# Altium integrated library con-amp.IntLib: 238 symbols (part 1 of 3)
Pins are listed as number, name and electrical type; pins without a type are passive.

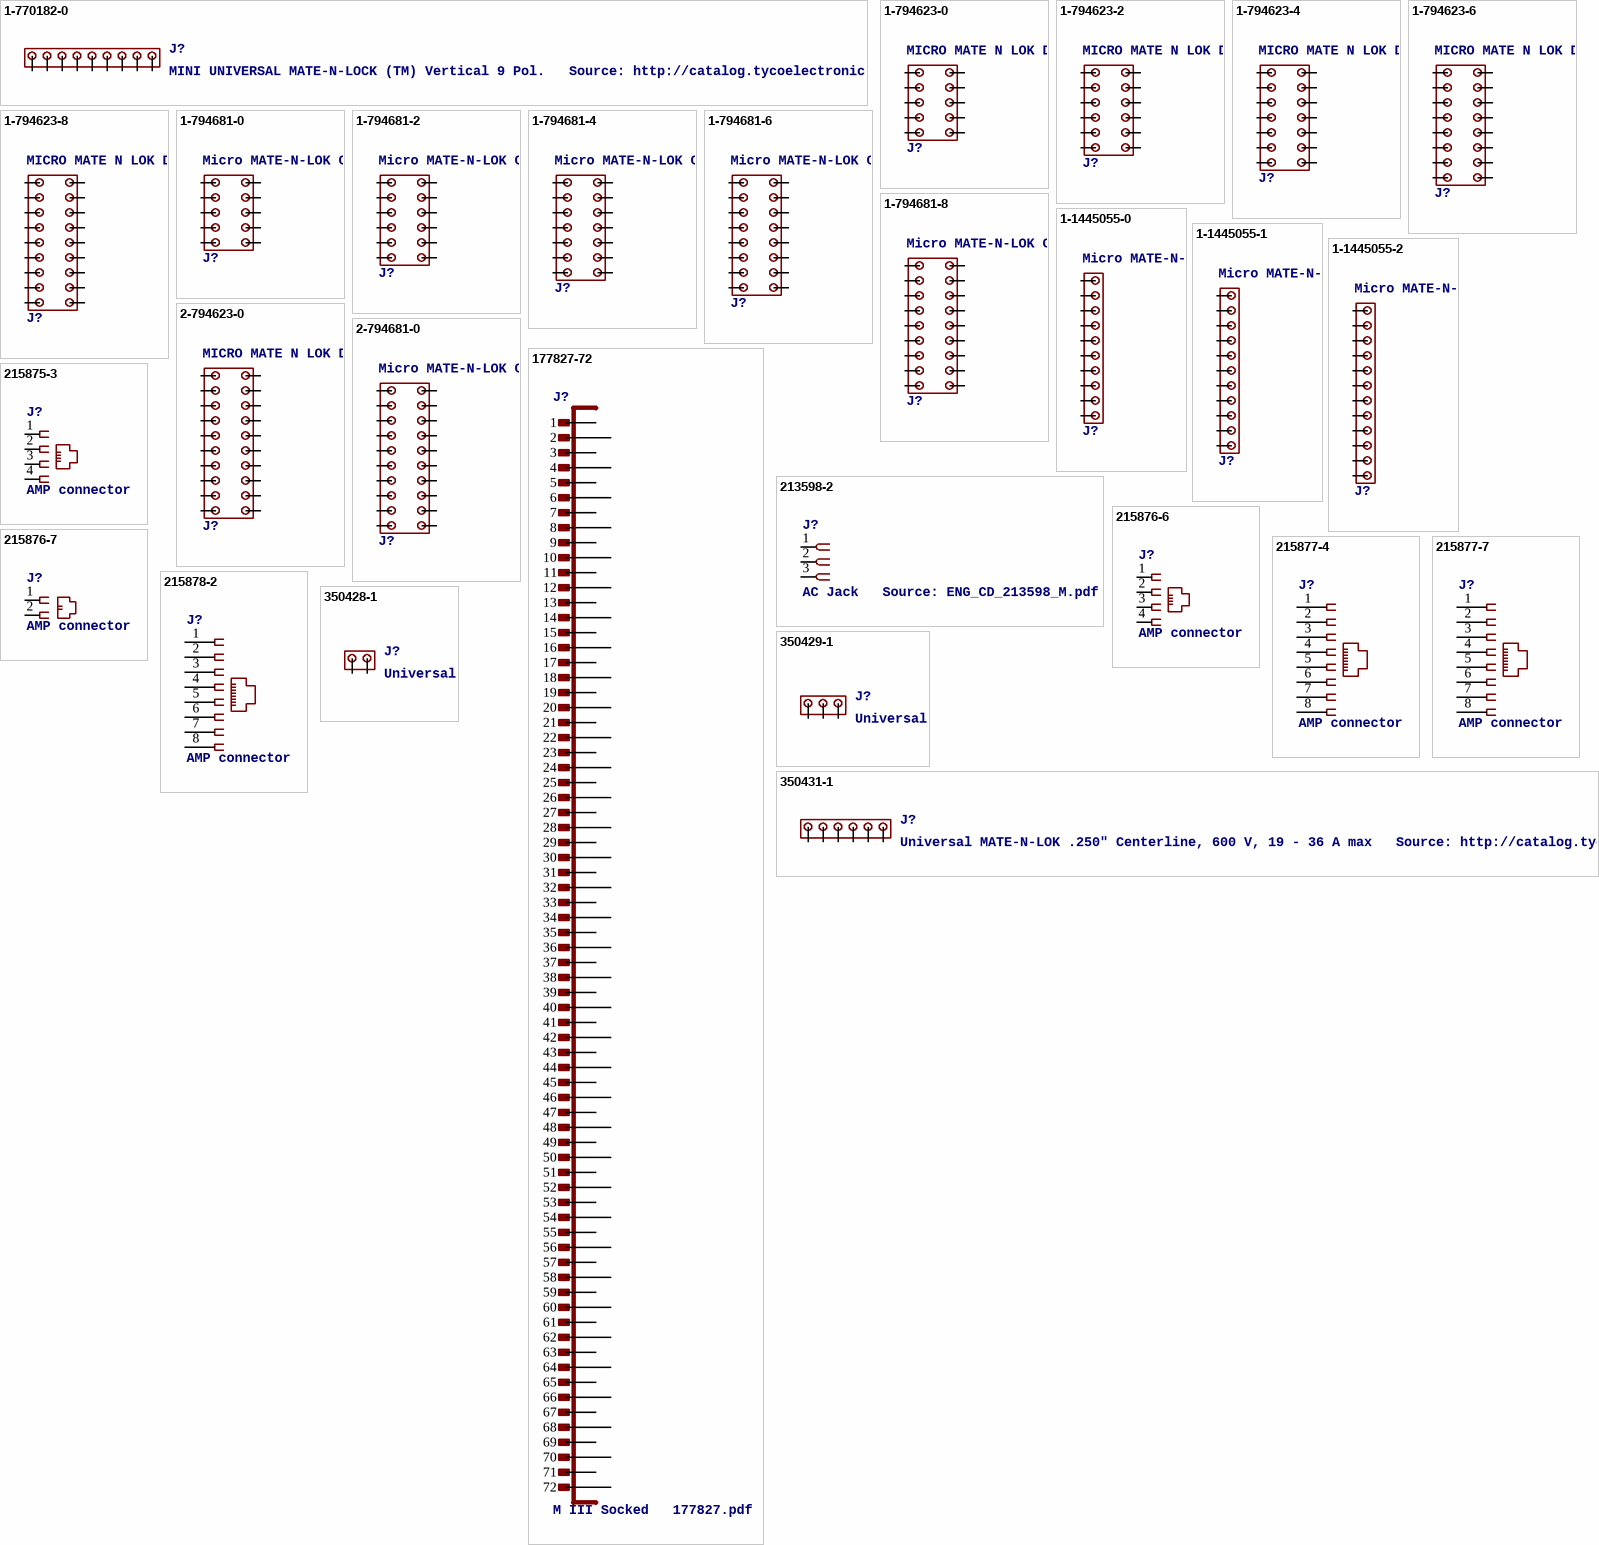
[diagram p0: symbols 1-770182-0 to 350431-1]

## 1-770182-0
designator J?, comment MINI UNIVERSAL MATE-N-LOCK (TM) Vertical 9 Pol.   Source: http://catalog.tycoelectronics.com .. ENG_CD_770182_L.pdf
footprint 1-770182-0
pins: 1, 2, 3, 4, 5, 6, 7, 8, 9

## 1-794623-0
designator J?, comment MICRO MATE N LOK Dual Row, grid 1.5 mm   Source: http://catalog.tycoelectronics.com .. ENG_CD_794623_F.pdf
footprint 1-794623-0
pins: 1, 2, 3, 4, 5, 6, 7, 8, 9, 10

## 1-794623-2
designator J?, comment MICRO MATE N LOK Dual Row, grid 1.5 mm   Source: http://catalog.tycoelectronics.com .. ENG_CD_794623_F.pdf
footprint 1-794623-2
pins: 1, 2, 3, 4, 5, 6, 7, 8, 9, 10, 11, 12

## 1-794623-4
designator J?, comment MICRO MATE N LOK Dual Row, grid 1.5 mm   Source: http://catalog.tycoelectronics.com .. ENG_CD_794623_F.pdf
footprint 1-794623-4
pins: 1, 2, 3, 4, 5, 6, 7, 8, 9, 10, 11, 12, 13, 14

## 1-794623-6
designator J?, comment MICRO MATE N LOK Dual Row, grid 1.5 mm   Source: http://catalog.tycoelectronics.com .. ENG_CD_794623_F.pdf
footprint 1-794623-6
pins: 1, 2, 3, 4, 5, 6, 7, 8, 9, 10, 11, 12, 13, 14, 15, 16

## 1-794623-8
designator J?, comment MICRO MATE N LOK Dual Row, grid 1.5 mm   Source: http://catalog.tycoelectronics.com .. ENG_CD_794623_F.pdf
footprint 1-794623-8
pins: 1, 2, 3, 4, 5, 6, 7, 8, 9, 10, 11, 12, 13, 14, 15, 16, 17, 18

## 1-794681-0
designator J?, comment Micro MATE-N-LOK Connectors grid 1.5mm   Dual Row Through Hole Vertical Metal Through Hole Holddowns Source: ENG_CD_794681_E.pdf
footprint 1-794681-0
pins: 1, 2, 3, 4, 5, 6, 7, 8, 9, 10

## 1-794681-2
designator J?, comment Micro MATE-N-LOK Connectors grid 1.5mm   Dual Row Through Hole Vertical Metal Through Hole Holddowns Source: ENG_CD_794681_E.pdf
footprint 1-794681-2
pins: 1, 2, 3, 4, 5, 6, 7, 8, 9, 10, 11, 12

## 1-794681-4
designator J?, comment Micro MATE-N-LOK Connectors grid 1.5mm   Dual Row Through Hole Vertical Metal Through Hole Holddowns Source: ENG_CD_794681_E.pdf
footprint 1-794681-4
pins: 1, 2, 3, 4, 5, 6, 7, 8, 9, 10, 11, 12, 13, 14

## 1-794681-6
designator J?, comment Micro MATE-N-LOK Connectors grid 1.5mm   Dual Row Through Hole Vertical Metal Through Hole Holddowns Source: ENG_CD_794681_E.pdf
footprint 1-794681-6
pins: 1, 2, 3, 4, 5, 6, 7, 8, 9, 10, 11, 12, 13, 14, 15, 16

## 1-794681-8
designator J?, comment Micro MATE-N-LOK Connectors grid 1.5mm   Dual Row Through Hole Vertical Metal Through Hole Holddowns Source: ENG_CD_794681_E.pdf
footprint 1-794681-8
pins: 1, 2, 3, 4, 5, 6, 7, 8, 9, 10, 11, 12, 13, 14, 15, 16, 17, 18

## 1-1445055-0
designator J?, comment Micro MATE-N-LOK Connectors grid 1.5 mm   Source: ENG_CD_1445055_A.pdf
footprint 1445055-10
pins: 1, 2, 3, 4, 5, 6, 7, 8, 9, 10

## 1-1445055-1
designator J?, comment Micro MATE-N-LOK Connectors grid 1.5 mm   Source: ENG_CD_1445055_A.pdf
footprint 1-1445055-1
pins: 1, 2, 3, 4, 5, 6, 7, 8, 9, 10, 11

## 1-1445055-2
designator J?, comment Micro MATE-N-LOK Connectors grid 1.5 mm   Source: ENG_CD_1445055_A.pdf
footprint 1-1445055-2
pins: 1, 2, 3, 4, 5, 6, 7, 8, 9, 10, 11, 12

## 2-794623-0
designator J?, comment MICRO MATE N LOK Dual Row, grid 1.5 mm   Source: http://catalog.tycoelectronics.com .. ENG_CD_794623_F.pdf
footprint 2-794623-0
pins: 1, 2, 3, 4, 5, 6, 7, 8, 9, 10, 11, 12, 13, 14, 15, 16, 17, 18, 19, 20

## 2-794681-0
designator J?, comment Micro MATE-N-LOK Connectors grid 1.5mm   Dual Row Through Hole Vertical Metal Through Hole Holddowns Source: ENG_CD_794681_E.pdf
footprint 2-794681-0
pins: 1, 2, 3, 4, 5, 6, 7, 8, 9, 10, 11, 12, 13, 14, 15, 16, 17, 18, 19, 20

## 177827-72
designator J?, comment M III Socked   177827.pdf
footprint 177827-72
pins: 1, 2, 3, 4, 5, 6, 7, 8, 9, 10, 11, 12, 13, 14, 15, 16, 17, 18, 19, 20, 21, 22, 23, 24, 25, 26, 27, 28, 29, 30, 31, 32, 33, 34, 35, 36, 37, 38, 39, 40, 41, 42, 43, 44, 45, 46, 47, 48, 49, 50, 51, 52, 53, 54, 55, 56, 57, 58, 59, 60, 61, 62, 63, 64, 65, 66, 67, 68, 69, 70, 71, 72

## 213598-2
designator J?, comment AC Jack   Source: ENG_CD_213598_M.pdf
footprint 213598-2
pins: 1, 2, 3

## 215875-3
designator J?, comment AMP connector
footprint 215875-3
pins: 1, 2, 3, 4

## 215876-6
designator J?, comment AMP connector
footprint 215876-6
pins: 1, 2, 3, 4

## 215876-7
designator J?, comment AMP connector
footprint 215876-7
pins: 1, 2

## 215877-4
designator J?, comment AMP connector
footprint 215877-4
pins: 1, 2, 3, 4, 5, 6, 7, 8

## 215877-7
designator J?, comment AMP connector
footprint 215877-7
pins: 1, 2, 3, 4, 5, 6, 7, 8

## 215878-2
designator J?, comment AMP connector
footprint 215878-2
pins: 1, 2, 3, 4, 5, 6, 7, 8

## 350428-1
designator J?, comment Universal MATE-N-LOK .250" Centerline, 600 V, 19 - 36 A max   Source: http://catalog.tycoelectronics.com/ .. ENG_CD_350428_Y.pdf
footprint 350428-1
pins: 1, 2

## 350429-1
designator J?, comment Universal MATE-N-LOK .250" Centerline, 600 V, 19 - 36 A max   Source: http://catalog.tycoelectronics.com/ .. ENG_CD_350429_Y.pdf
footprint 350429-1
pins: 1, 2, 3

## 350431-1
designator J?, comment Universal MATE-N-LOK .250" Centerline, 600 V, 19 - 36 A max   Source: http://catalog.tycoelectronics.com/ .. ENG_CD_350431_Y.pdf
footprint 350431-1
pins: 1, 2, 3, 4, 5, 6

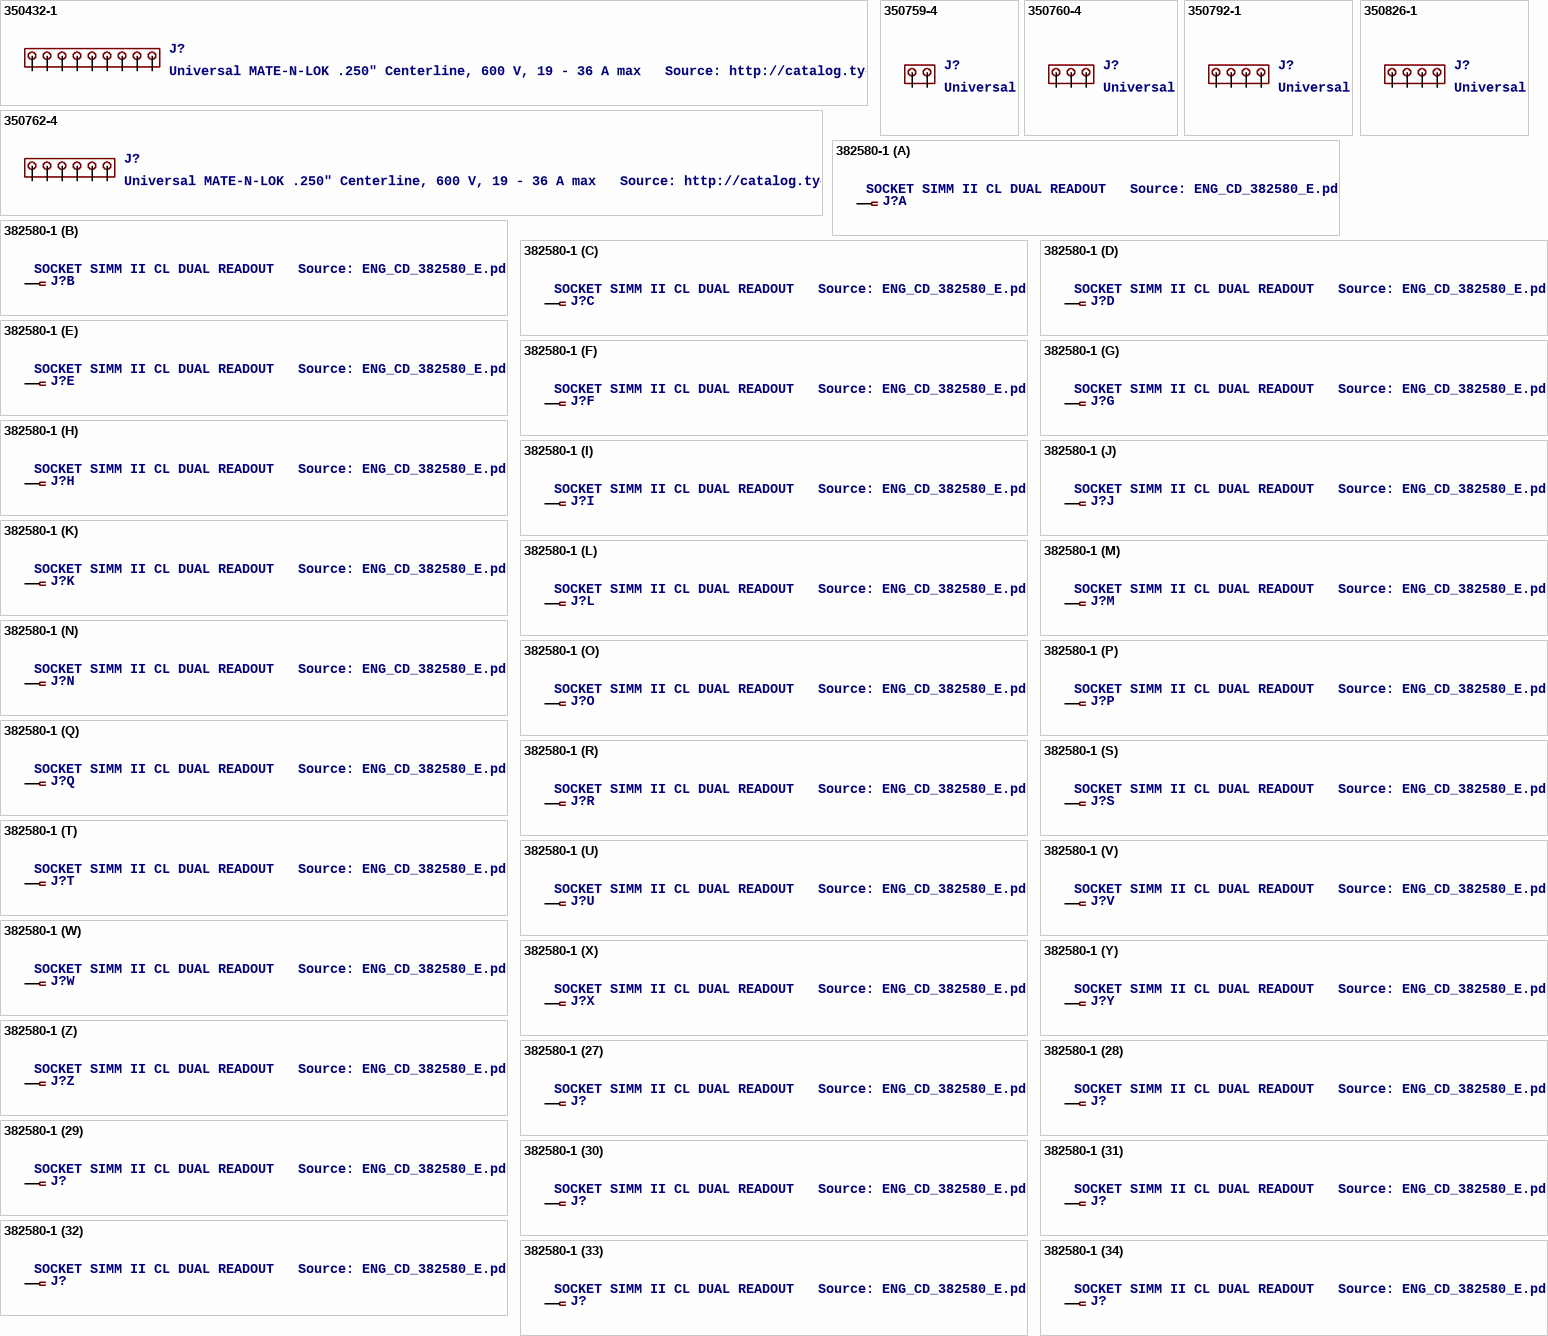
[diagram p1: symbols 350432-1 to 382580-1]

## 350432-1
designator J?, comment Universal MATE-N-LOK .250" Centerline, 600 V, 19 - 36 A max   Source: http://catalog.tycoelectronics.com/ .. ENG_CD_350432_W.pdf
footprint 350432-1
pins: 1, 2, 3, 4, 5, 6, 7, 8, 9

## 350759-4
designator J?, comment Universal MATE-N-LOK .250" Centerline, 600 V, 19 - 36 A max   Source: http://catalog.tycoelectronics.com/ .. ENG_CD_350759_R.pdf
footprint 350759-4
pins: 1, 2

## 350760-4
designator J?, comment Universal MATE-N-LOK .250" Centerline, 600 V, 19 - 36 A max   Source: http://catalog.tycoelectronics.com/ .. ENG_CD_350760_T.pdf
footprint 350760-4
pins: 1, 2, 3

## 350762-4
designator J?, comment Universal MATE-N-LOK .250" Centerline, 600 V, 19 - 36 A max   Source: http://catalog.tycoelectronics.com/ .. ENG_CD_350762_N.pdf
footprint 350762-4
pins: 1, 2, 3, 4, 5, 6

## 350792-1
designator J?, comment Universal MATE-N-LOK .250" Centerline, 600 V, 19 - 36 A max   Source: http://catalog.tycoelectronics.com/ .. ENG_CD_350792_R.pdf
footprint 350792-1
pins: 1, 2, 3, 4

## 350826-1
designator J?, comment Universal MATE-N-LOK .250" Centerline, 600 V, 19 - 36 A max   Source: http://catalog.tycoelectronics.com/ .. ENG_CD_350826_P.pdf
footprint 350826-1
pins: 1, 2, 3, 4

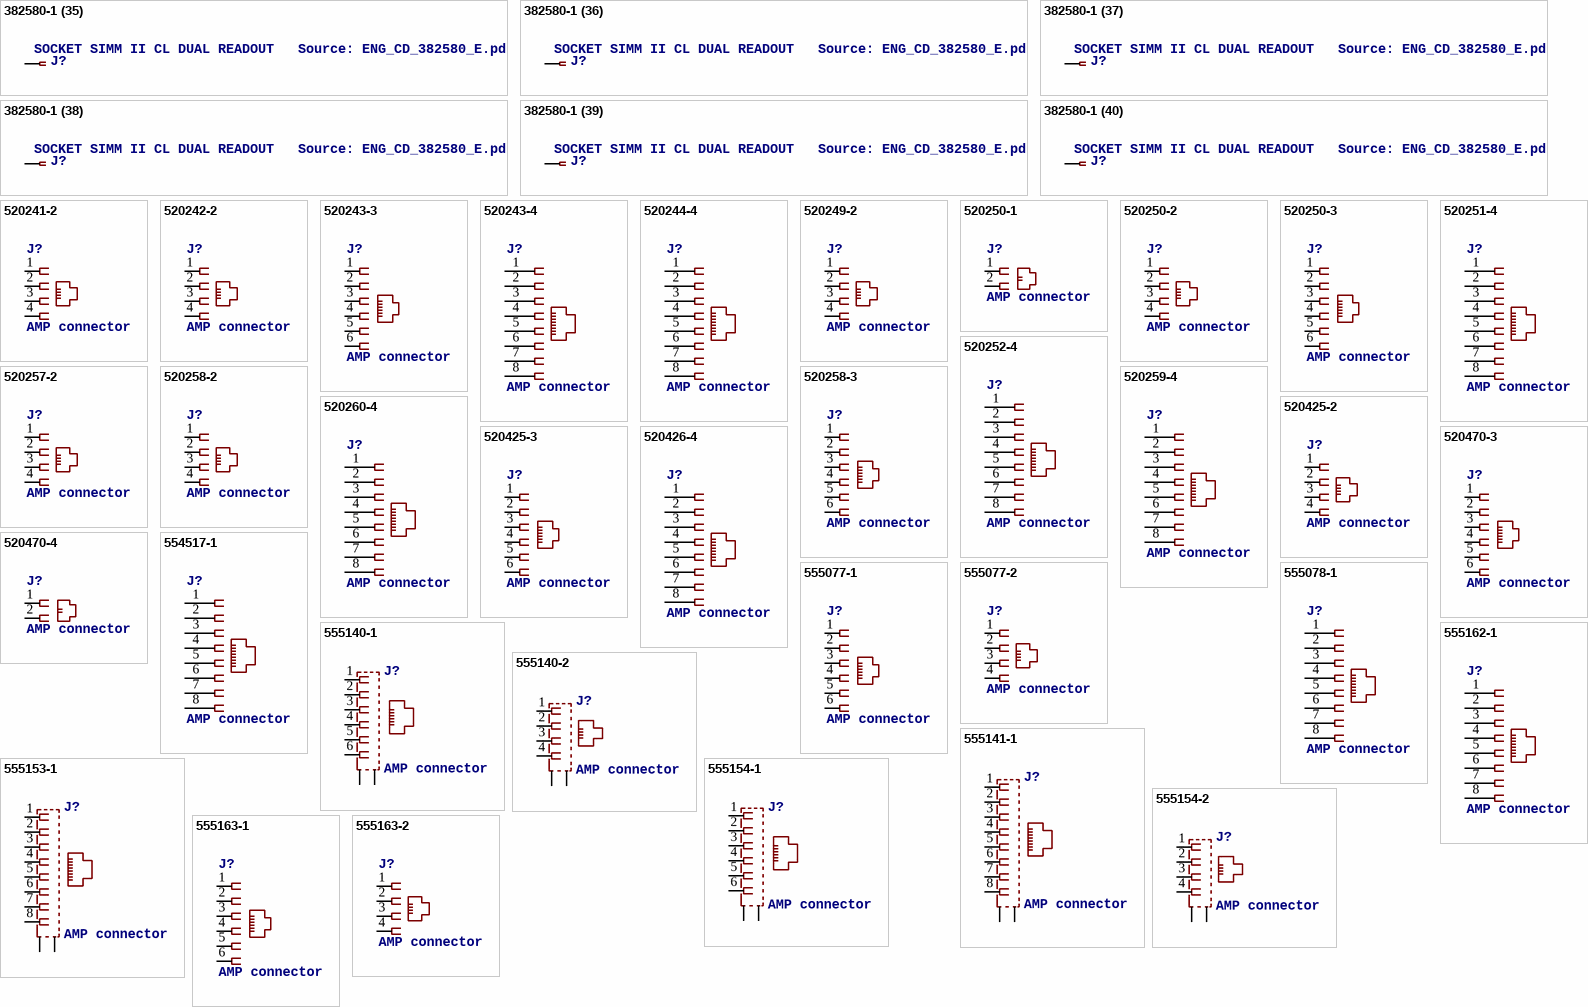
[diagram p2: symbols 382580-1 to 555163-2]

## 382580-1
designator J?, comment SOCKET SIMM II CL DUAL READOUT   Source: ENG_CD_382580_E.pdf
footprint 382580-1
part A pins: 1
part B pins: 2 1
part C pins: 3 1
part D pins: 4 1
part E pins: 5 1
part F pins: 6 1
part G pins: 7 1
part H pins: 8 1
part I pins: 9 1
part J pins: 10 1
part K pins: 11 1
part L pins: 12 1
part M pins: 13 1
part N pins: 14 1
part O pins: 15 1
part P pins: 16 1
part Q pins: 17 1
part R pins: 18 1
part S pins: 19 1
part T pins: 20 1
part U pins: 21 1
part V pins: 22 1
part W pins: 23 1
part X pins: 24 1
part Y pins: 25 1
part Z pins: 26 1
part 27 pins: 27 1
part 28 pins: 28 1
part 29 pins: 29 1
part 30 pins: 30 1
part 31 pins: 31 1
part 32 pins: 32 1
part 33 pins: 33 1
part 34 pins: 34 1
part 35 pins: 35 1
part 36 pins: 36 1
part 37 pins: 37 1
part 38 pins: 38 1
part 39 pins: 39 1
part 40 pins: 40 1
part 41 pins: 41 1
part 42 pins: 42 1
part 43 pins: 43 1
part 44 pins: 44 1
part 45 pins: 45 1
part 46 pins: 46 1
part 47 pins: 47 1
part 48 pins: 48 1
part 49 pins: 49 1
part 50 pins: 50 1
part 51 pins: 51 1
part 52 pins: 52 1
part 53 pins: 53 1
part 54 pins: 54 1
part 55 pins: 55 1
part 56 pins: 56 1
part 57 pins: 57 1
part 58 pins: 58 1
part 59 pins: 59 1
part 60 pins: 60 1
part 61 pins: 61 1
part 62 pins: 62 1
part 63 pins: 63 1
part 64 pins: 64 1
part 65 pins: 65 1
part 66 pins: 66 1
part 67 pins: 67 1
part 68 pins: 68 1
part 69 pins: 69 1
part 70 pins: 70 1
part 71 pins: 71 1
part 72 pins: 72 1
part 73 pins: 73 1
part 74 pins: 74 1
part 75 pins: 75 1
part 76 pins: 76 1
part 77 pins: 77 1
part 78 pins: 78 1
part 79 pins: 79 1
part 80 pins: 80 1
part 81 pins: 81 1
part 82 pins: 82 1
part 83 pins: 83 1
part 84 pins: 84 1
part 85 pins: 85 1
part 86 pins: 86 1
part 87 pins: 87 1
part 88 pins: 88 1
part 89 pins: 89 1
part 90 pins: 90 1
part 91 pins: 91 1
part 92 pins: 92 1
part 93 pins: 93 1
part 94 pins: 94 1
part 95 pins: 95 1
part 96 pins: 96 1
part 97 pins: 97 1
part 98 pins: 98 1
part 99 pins: 99 1
part 100 pins: 100 1
part 101 pins: 101 1
part 102 pins: 102 1
part 103 pins: 103 1
part 104 pins: 104 1
part 105 pins: 105 1
part 106 pins: 106 1
part 107 pins: 107 1
part 108 pins: 108 1
part 109 pins: 109 1
part 110 pins: 110 1
part 111 pins: 111 1
part 112 pins: 112 1
part 113 pins: 113 1
part 114 pins: 114 1
part 115 pins: 115 1
part 116 pins: 116 1
part 117 pins: 117 1
part 118 pins: 118 1
part 119 pins: 119 1
part 120 pins: 120 1
part 121 pins: 121 1
part 122 pins: 122 1
part 123 pins: 123 1
part 124 pins: 124 1
part 125 pins: 125 1
part 126 pins: 126 1
part 127 pins: 127 1
part 128 pins: 128 1
part 129 pins: 129 1
part 130 pins: 130 1
part 131 pins: 131 1
part 132 pins: 132 1
part 133 pins: 133 1
part 134 pins: 134 1
part 135 pins: 135 1
part 136 pins: 136 1
part 137 pins: 137 1
part 138 pins: 138 1
part 139 pins: 139 1
part 140 pins: 140 1
part 141 pins: 141 1
part 142 pins: 142 1
part 143 pins: 143 1
part 144 pins: 144 1
part 145 pins: 145 1
part 146 pins: 146 1
part 147 pins: 147 1
part 148 pins: 148 1
part 149 pins: 149 1
part 150 pins: 150 1
part 151 pins: 151 1
part 152 pins: 152 1
part 153 pins: 153 1
part 154 pins: 154 1
part 155 pins: 155 1
part 156 pins: 156 1
part 157 pins: 157 1
part 158 pins: 158 1
part 159 pins: 159 1
part 160 pins: 160 1
part 161 pins: 161 1
part 162 pins: 162 1
part 163 pins: 163 1
part 164 pins: 164 1
part 165 pins: 165 1
part 166 pins: 166 1
part 167 pins: 167 1
part 168 pins: 168 1
part 169 pins: 169 1
part 170 pins: 170 1
part 171 pins: 171 1
part 172 pins: 172 1
part 173 pins: 173 1
part 174 pins: 174 1
part 175 pins: 175 1
part 176 pins: 176 1
part 177 pins: 177 1
part 178 pins: 178 1
part 179 pins: 179 1
part 180 pins: 180 1
part 181 pins: 181 1
part 182 pins: 182 1
part 183 pins: 183 1
part 184 pins: 184 1
part 185 pins: 185 1
part 186 pins: 186 1
part 187 pins: 187 1
part 188 pins: 188 1
part 189 pins: 189 1
part 190 pins: 190 1
part 191 pins: 191 1
part 192 pins: 192 1
part 193 pins: 193 1
part 194 pins: 194 1
part 195 pins: 195 1
part 196 pins: 196 1
part 197 pins: 197 1
part 198 pins: 198 1
part 199 pins: 199 1
part 200 pins: 200 1
part 201 pins: 201 1
part 202 pins: 202 1
part 203 pins: 203 1
part 204 pins: 204 1
part 205 pins: 205 1
part 206 pins: 206 1
part 207 pins: 207 1
part 208 pins: 208 1
part 209 pins: 209 1
part 210 pins: 210 1
part 211 pins: 211 1
part 212 pins: 212 1
part 213 pins: 213 1
part 214 pins: 214 1
part 215 pins: 215 1
part 216 pins: 216 1
part 217 pins: 217 1
part 218 pins: 218 1
part 219 pins: 219 1
part 220 pins: 220 1
part 221 pins: 221 1
part 222 pins: 222 1
part 223 pins: 223 1
part 224 pins: 224 1
part 225 pins: 225 1
part 226 pins: 226 1
part 227 pins: 227 1
part 228 pins: 228 1
part 229 pins: 229 1
part 230 pins: 230 1
part 231 pins: 231 1
part 232 pins: 232 1
part 233 pins: 233 1
part 234 pins: 234 1
part 235 pins: 235 1
part 236 pins: 236 1
part 237 pins: 237 1
part 238 pins: 238 1
part 239 pins: 239 1
part 240 pins: 240 1
part 241 pins: 241 1
part 242 pins: 242 1
part 243 pins: 243 1
part 244 pins: 244 1
part 245 pins: 245 1
part 246 pins: 246 1
part 247 pins: 247 1
part 248 pins: 248 1
part 249 pins: 249 1
part 250 pins: 250 1
part 251 pins: 251 1
part 252 pins: 252 1
part 253 pins: 253 1
part 254 pins: 254 1
part 255 pins: 255 1
part 256 pins: 256 1
part 257 pins: 257 1
part 258 pins: 258 1
part 259 pins: 259 1
part 260 pins: 260 1
part 261 pins: 261 1
part 262 pins: 262 1
part 263 pins: 263 1
part 264 pins: 264 1
part 265 pins: 265 1
part 266 pins: 266 1
part 267 pins: 267 1
part 268 pins: 268 1
part 269 pins: 269 1
part 270 pins: 270 1
part 271 pins: 271 1
part 272 pins: 272 1
part 273 pins: 273 1
part 274 pins: 274 1
part 275 pins: 275 1
part 276 pins: 276 1
part 277 pins: 277 1
part 278 pins: 278 1
part 279 pins: 279 1
part 280 pins: 280 1
part 281 pins: 281 1
part 282 pins: 282 1
part 283 pins: 283 1
part 284 pins: 284 1
part 285 pins: 285 1
part 286 pins: 286 1
part 287 pins: 287 1
part 288 pins: 288 1
part 289 pins: 289 1
part 290 pins: 290 1
part 291 pins: 291 1
part 292 pins: 292 1
part 293 pins: 293 1
part 294 pins: 294 1
part 295 pins: 295 1
part 296 pins: 296 1
part 297 pins: 297 1
part 298 pins: 298 1
part 299 pins: 299 1
part 300 pins: 300 1
part 301 pins: 301 1
part 302 pins: 302 1
part 303 pins: 303 1
part 304 pins: 304 1
part 305 pins: 305 1
part 306 pins: 306 1
part 307 pins: 307 1
part 308 pins: 308 1
part 309 pins: 309 1
part 310 pins: 310 1
part 311 pins: 311 1
part 312 pins: 312 1
part 313 pins: 313 1
part 314 pins: 314 1
part 315 pins: 315 1
part 316 pins: 316 1
part 317 pins: 317 1
part 318 pins: 318 1
part 319 pins: 319 1
part 320 pins: 320 1
part 321 pins: 321 1
part 322 pins: 322 1
part 323 pins: 323 1
part 324 pins: 324 1
part 325 pins: 325 1
part 326 pins: 326 1
part 327 pins: 327 1
part 328 pins: 328 1
part 329 pins: 329 1
part 330 pins: 330 1
part 331 pins: 331 1
part 332 pins: 332 1
part 333 pins: 333 1
part 334 pins: 334 1
part 335 pins: 335 1
part 336 pins: 336 1
part 337 pins: 337 1
part 338 pins: 338 1
part 339 pins: 339 1
part 340 pins: 340 1
part 341 pins: 341 1
part 342 pins: 342 1
part 343 pins: 343 1
part 344 pins: 344 1
part 345 pins: 345 1
part 346 pins: 346 1
part 347 pins: 347 1
part 348 pins: 348 1
part 349 pins: 349 1
part 350 pins: 350 1
part 351 pins: 351 1
part 352 pins: 352 1
part 353 pins: 353 1
part 354 pins: 354 1
part 355 pins: 355 1
part 356 pins: 356 1
part 357 pins: 357 1
part 358 pins: 358 1
part 359 pins: 359 1
part 360 pins: 360 1
part 361 pins: 361 1
part 362 pins: 362 1
part 363 pins: 363 1
part 364 pins: 364 1
part 365 pins: 365 1
part 366 pins: 366 1
part 367 pins: 367 1
part 368 pins: 368 1
part 369 pins: 369 1
part 370 pins: 370 1
part 371 pins: 371 1
part 372 pins: 372 1
part 373 pins: 373 1
part 374 pins: 374 1
part 375 pins: 375 1
part 376 pins: 376 1
part 377 pins: 377 1
part 378 pins: 378 1
part 379 pins: 379 1
part 380 pins: 380 1
part 381 pins: 381 1
part 382 pins: 382 1
part 383 pins: 383 1
part 384 pins: 384 1
part 385 pins: 385 1
part 386 pins: 386 1
part 387 pins: 387 1
part 388 pins: 388 1
part 389 pins: 389 1
part 390 pins: 390 1
part 391 pins: 391 1
part 392 pins: 392 1
part 393 pins: 393 1
part 394 pins: 394 1
part 395 pins: 395 1
part 396 pins: 396 1
part 397 pins: 397 1
part 398 pins: 398 1
part 399 pins: 399 1
part 400 pins: 400 1

## 520241-2
designator J?, comment AMP connector
footprint 520241-2
pins: 1, 2, 3, 4

## 520242-2
designator J?, comment AMP connector
footprint 520242-2
pins: 1, 2, 3, 4

## 520243-3
designator J?, comment AMP connector
footprint 520243-3
pins: 1, 2, 3, 4, 5, 6

## 520243-4
designator J?, comment AMP connector
footprint 520243-4
pins: 1, 2, 3, 4, 5, 6, 7, 8

## 520244-4
designator J?, comment AMP connector
footprint 520244-4
pins: 1, 2, 3, 4, 5, 6, 7, 8

## 520249-2
designator J?, comment AMP connector
footprint 520249-2
pins: 1, 2, 3, 4

## 520250-1
designator J?, comment AMP connector
footprint 520250-1
pins: 1, 2

## 520250-2
designator J?, comment AMP connector
footprint 520250-2
pins: 1, 2, 3, 4

## 520250-3
designator J?, comment AMP connector
footprint 520250-3
pins: 1, 2, 3, 4, 5, 6

## 520251-4
designator J?, comment AMP connector
footprint 520251-4
pins: 1, 2, 3, 4, 5, 6, 7, 8

## 520252-4
designator J?, comment AMP connector
footprint 520252-4
pins: 1, 2, 3, 4, 5, 6, 7, 8

## 520257-2
designator J?, comment AMP connector
footprint 520257-2
pins: 1, 2, 3, 4

## 520258-2
designator J?, comment AMP connector
footprint 520258-2
pins: 1, 2, 3, 4

## 520258-3
designator J?, comment AMP connector
footprint 520258-3
pins: 1, 2, 3, 4, 5, 6

## 520259-4
designator J?, comment AMP connector
footprint 520259-4
pins: 1, 2, 3, 4, 5, 6, 7, 8

## 520260-4
designator J?, comment AMP connector
footprint 520260-4
pins: 1, 2, 3, 4, 5, 6, 7, 8

## 520425-2
designator J?, comment AMP connector
footprint 520425-2
pins: 1, 2, 3, 4

## 520425-3
designator J?, comment AMP connector
footprint 520425-3
pins: 1, 2, 3, 4, 5, 6

## 520426-4
designator J?, comment AMP connector
footprint 520426-4
pins: 1, 2, 3, 4, 5, 6, 7, 8

## 520470-3
designator J?, comment AMP connector
footprint 520470-3
pins: 1, 2, 3, 4, 5, 6

## 520470-4
designator J?, comment AMP connector
footprint 520470-4
pins: 1, 2

## 554517-1
designator J?, comment AMP connector
footprint 554517-1
pins: 1, 2, 3, 4, 5, 6, 7, 8

## 555077-1
designator J?, comment AMP connector
footprint 555077-1
pins: 1, 2, 3, 4, 5, 6

## 555077-2
designator J?, comment AMP connector
footprint 555077-2
pins: 1, 2, 3, 4

## 555078-1
designator J?, comment AMP connector
footprint 555078-1
pins: 1, 2, 3, 4, 5, 6, 7, 8

## 555140-1
designator J?, comment AMP connector
footprint 555140-1
pins: 1, 2, 3, 4, 5, 6, G1 S1, G2 S2

## 555140-2
designator J?, comment AMP connector
footprint 555140-2
pins: 1, 2, 3, 4, G1 S1, G2 S2

## 555141-1
designator J?, comment AMP connector
footprint 555153-1
pins: 1, 2, 3, 4, 5, 6, 7, 8, G1 S1, G2 S2

## 555153-1
designator J?, comment AMP connector
footprint 555153-1
pins: 1, 2, 3, 4, 5, 6, 7, 8, G1 S1, G2 S2

## 555154-1
designator J?, comment AMP connector
footprint 555154-1
pins: 1, 2, 3, 4, 5, 6, G1 S1, G2 S2

## 555154-2
designator J?, comment AMP connector
footprint 555154-2
pins: 1, 2, 3, 4, G1 S2, G2 S1

## 555162-1
designator J?, comment AMP connector
footprint 555162-1
pins: 1, 2, 3, 4, 5, 6, 7, 8

## 555163-1
designator J?, comment AMP connector
footprint 555163-1
pins: 1, 2, 3, 4, 5, 6

## 555163-2
designator J?, comment AMP connector
footprint 555163-2
pins: 1, 2, 3, 4

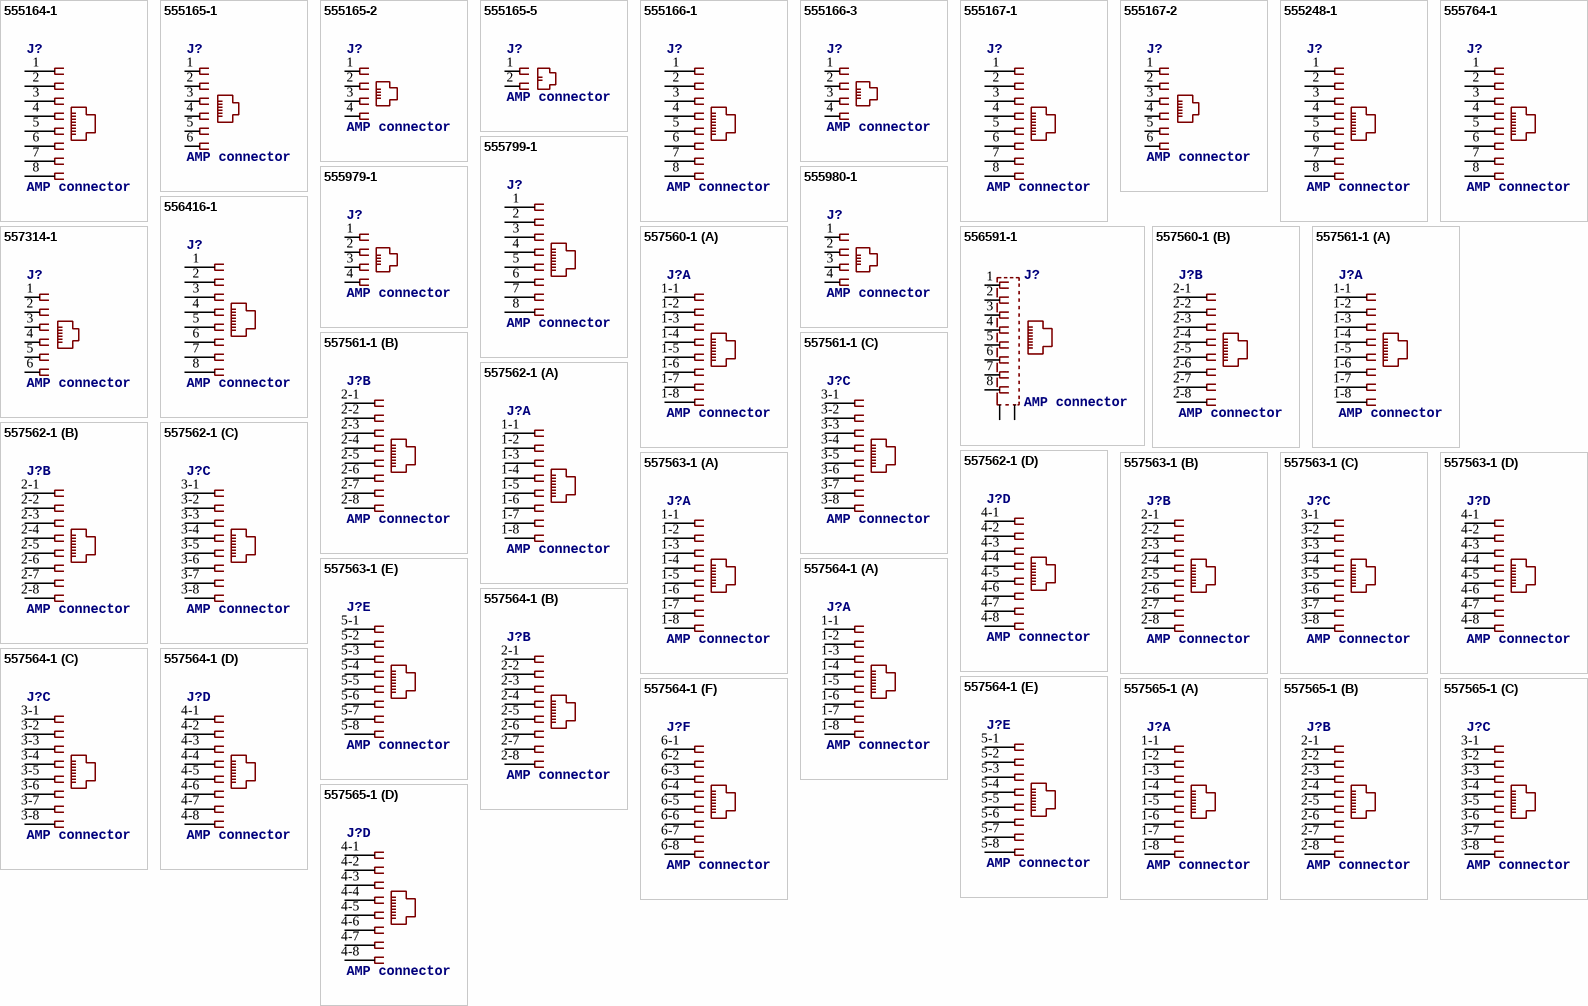
[diagram p3: symbols 555164-1 to 557565-1]

## 555164-1
designator J?, comment AMP connector
footprint 555164-1
pins: 1, 2, 3, 4, 5, 6, 7, 8

## 555165-1
designator J?, comment AMP connector
footprint 555165-1
pins: 1, 2, 3, 4, 5, 6

## 555165-2
designator J?, comment AMP connector
footprint 555165-2
pins: 1, 2, 3, 4

## 555165-5
designator J?, comment AMP connector
footprint 555165-5
pins: 1, 2

## 555166-1
designator J?, comment AMP connector
footprint 555166-1
pins: 1, 2, 3, 4, 5, 6, 7, 8

## 555166-3
designator J?, comment AMP connector
footprint 555166-3
pins: 1, 2, 3, 4

## 555167-1
designator J?, comment AMP connector
footprint 555167-1
pins: 1, 2, 3, 4, 5, 6, 7, 8

## 555167-2
designator J?, comment AMP connector
footprint 555167-2
pins: 1, 2, 3, 4, 5, 6

## 555248-1
designator J?, comment AMP connector
footprint 555248-1
pins: 1, 2, 3, 4, 5, 6, 7, 8

## 555764-1
designator J?, comment AMP connector
footprint 555764-1
pins: 1, 2, 3, 4, 5, 6, 7, 8

## 555799-1
designator J?, comment AMP connector
footprint 555799-1
pins: 1, 2, 3, 4, 5, 6, 7, 8

## 555979-1
designator J?, comment AMP connector
footprint 555979-1
pins: 1, 2, 3, 4

## 555980-1
designator J?, comment AMP connector
footprint 555980-1
pins: 1, 2, 3, 4

## 556416-1
designator J?, comment AMP connector
footprint 556416-1
pins: 1, 2, 3, 4, 5, 6, 7, 8

## 556591-1
designator J?, comment AMP connector
footprint 556591-1
pins: 1, 2, 3, 4, 5, 6, 7, 8, G1 S1, G2 S2

## 557314-1
designator J?, comment AMP connector
footprint 557314-1
pins: 1, 2, 3, 4, 5, 6

## 557560-1
designator J?, comment AMP connector
footprint 557560-1
part A pins: 1-1 1, 1-2 2, 1-3 3, 1-4 4, 1-5 5, 1-6 6, 1-7 7, 1-8 8
part B pins: 2-1 1, 2-2 2, 2-3 3, 2-4 4, 2-5 5, 2-6 6, 2-7 7, 2-8 8

## 557561-1
designator J?, comment AMP connector
footprint 557561-1
part A pins: 1-1 1, 1-2 2, 1-3 3, 1-4 4, 1-5 5, 1-6 6, 1-7 7, 1-8 8
part B pins: 2-1 1, 2-2 2, 2-3 3, 2-4 4, 2-5 5, 2-6 6, 2-7 7, 2-8 8
part C pins: 3-1 1, 3-2 2, 3-3 3, 3-4 4, 3-5 5, 3-6 6, 3-7 7, 3-8 8

## 557562-1
designator J?, comment AMP connector
footprint 557562-1
part A pins: 1-1 1, 1-2 2, 1-3 3, 1-4 4, 1-5 5, 1-6 6, 1-7 7, 1-8 8
part B pins: 2-1 1, 2-2 2, 2-3 3, 2-4 4, 2-5 5, 2-6 6, 2-7 7, 2-8 8
part C pins: 3-1 1, 3-2 2, 3-3 3, 3-4 4, 3-5 5, 3-6 6, 3-7 7, 3-8 8
part D pins: 4-1 1, 4-2 2, 4-3 3, 4-4 4, 4-5 5, 4-6 6, 4-7 7, 4-8 8

## 557563-1
designator J?, comment AMP connector
footprint 557563-1
part A pins: 1-1 1, 1-2 2, 1-3 3, 1-4 4, 1-5 5, 1-6 6, 1-7 7, 1-8 8
part B pins: 2-1 1, 2-2 2, 2-3 3, 2-4 4, 2-5 5, 2-6 6, 2-7 7, 2-8 8
part C pins: 3-1 1, 3-2 2, 3-3 3, 3-4 4, 3-5 5, 3-6 6, 3-7 7, 3-8 8
part D pins: 4-1 1, 4-2 2, 4-3 3, 4-4 4, 4-5 5, 4-6 6, 4-7 7, 4-8 8
part E pins: 5-1 1, 5-2 2, 5-3 3, 5-4 4, 5-5 5, 5-6 6, 5-7 7, 5-8 8

## 557564-1
designator J?, comment AMP connector
footprint 557564-1
part A pins: 1-1 1, 1-2 2, 1-3 3, 1-4 4, 1-5 5, 1-6 6, 1-7 7, 1-8 8
part B pins: 2-1 1, 2-2 2, 2-3 3, 2-4 4, 2-5 5, 2-6 6, 2-7 7, 2-8 8
part C pins: 3-1 1, 3-2 2, 3-3 3, 3-4 4, 3-5 5, 3-6 6, 3-7 7, 3-8 8
part D pins: 4-1 1, 4-2 2, 4-3 3, 4-4 4, 4-5 5, 4-6 6, 4-7 7, 4-8 8
part E pins: 5-1 1, 5-2 2, 5-3 3, 5-4 4, 5-5 5, 5-6 6, 5-7 7, 5-8 8
part F pins: 6-1 1, 6-2 2, 6-3 3, 6-4 4, 6-5 5, 6-6 6, 6-7 7, 6-8 8

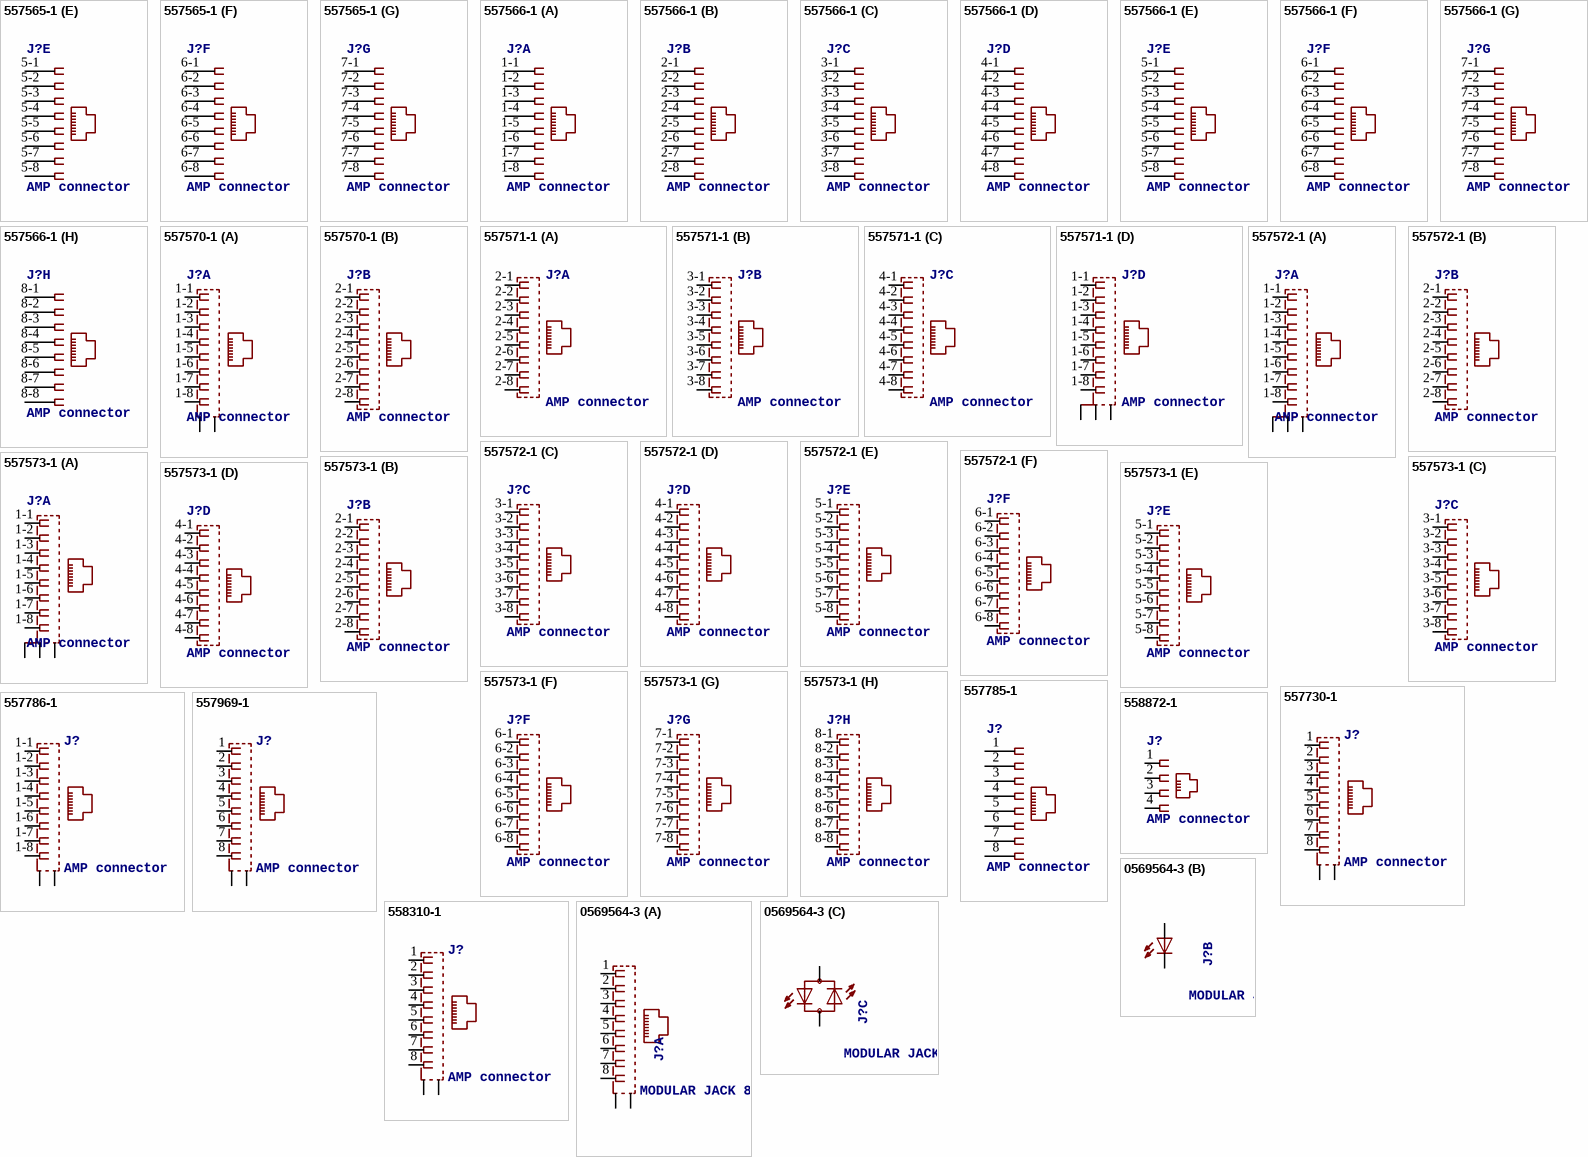
[diagram p4: symbols 557565-1 to 0569564-3]

## 557565-1
designator J?, comment AMP connector
footprint 557565-1
part A pins: 1-1 1, 1-2 2, 1-3 3, 1-4 4, 1-5 5, 1-6 6, 1-7 7, 1-8 8
part B pins: 2-1 1, 2-2 2, 2-3 3, 2-4 4, 2-5 5, 2-6 6, 2-7 7, 2-8 8
part C pins: 3-1 1, 3-2 2, 3-3 3, 3-4 4, 3-5 5, 3-6 6, 3-7 7, 3-8 8
part D pins: 4-1 1, 4-2 2, 4-3 3, 4-4 4, 4-5 5, 4-6 6, 4-7 7, 4-8 8
part E pins: 5-1 1, 5-2 2, 5-3 3, 5-4 4, 5-5 5, 5-6 6, 5-7 7, 5-8 8
part F pins: 6-1 1, 6-2 2, 6-3 3, 6-4 4, 6-5 5, 6-6 6, 6-7 7, 6-8 8
part G pins: 7-1 1, 7-2 2, 7-3 3, 7-4 4, 7-5 5, 7-6 6, 7-7 7, 7-8 8

## 557566-1
designator J?, comment AMP connector
footprint 557566-1
part A pins: 1-1 1, 1-2 2, 1-3 3, 1-4 4, 1-5 5, 1-6 6, 1-7 7, 1-8 8
part B pins: 2-1 1, 2-2 2, 2-3 3, 2-4 4, 2-5 5, 2-6 6, 2-7 7, 2-8 8
part C pins: 3-1 1, 3-2 2, 3-3 3, 3-4 4, 3-5 5, 3-6 6, 3-7 7, 3-8 8
part D pins: 4-1 1, 4-2 2, 4-3 3, 4-4 4, 4-5 5, 4-6 6, 4-7 7, 4-8 8
part E pins: 5-1 1, 5-2 2, 5-3 3, 5-4 4, 5-5 5, 5-6 6, 5-7 7, 5-8 8
part F pins: 6-1 1, 6-2 2, 6-3 3, 6-4 4, 6-5 5, 6-6 6, 6-7 7, 6-8 8
part G pins: 7-1 1, 7-2 2, 7-3 3, 7-4 4, 7-5 5, 7-6 6, 7-7 7, 7-8 8
part H pins: 8-1 1, 8-2 2, 8-3 3, 8-4 4, 8-5 5, 8-6 6, 8-7 7, 8-8 8

## 557570-1
designator J?, comment AMP connector
footprint 557570-1
part A pins: 1-1 1, 1-2 2, 1-3 3, 1-4 4, 1-5 5, 1-6 6, 1-7 7, 1-8 8, G1 S2, G3 S1
part B pins: 2-1 1, 2-2 2, 2-3 3, 2-4 4, 2-5 5, 2-6 6, 2-7 7, 2-8 8

## 557571-1
designator J?, comment AMP connector
footprint 557571-1
part A pins: 2-1 1, 2-2 2, 2-3 3, 2-4 4, 2-5 5, 2-6 6, 2-7 7, 2-8 8
part B pins: 3-1 1, 3-2 2, 3-3 3, 3-4 4, 3-5 5, 3-6 6, 3-7 7, 3-8 8
part C pins: 4-1 1, 4-2 2, 4-3 3, 4-4 4, 4-5 5, 4-6 6, 4-7 7, 4-8 8
part D pins: 1-1 1, 1-2 2, 1-3 3, 1-4 4, 1-5 5, 1-6 6, 1-7 7, 1-8 8, G1 9, G2 10, G3 11

## 557572-1
designator J?, comment AMP connector
footprint 557572-1
part A pins: 1-1 1, 1-2 2, 1-3 3, 1-4 4, 1-5 5, 1-6 6, 1-7 7, 1-8 8, G1 9, G2 10, G3 11
part B pins: 2-1 1, 2-2 2, 2-3 3, 2-4 4, 2-5 5, 2-6 6, 2-7 7, 2-8 8
part C pins: 3-1 1, 3-2 2, 3-3 3, 3-4 4, 3-5 5, 3-6 6, 3-7 7, 3-8 8
part D pins: 4-1 1, 4-2 2, 4-3 3, 4-4 4, 4-5 5, 4-6 6, 4-7 7, 4-8 8
part E pins: 5-1 1, 5-2 2, 5-3 3, 5-4 4, 5-5 5, 5-6 6, 5-7 7, 5-8 8
part F pins: 6-1 1, 6-2 2, 6-3 3, 6-4 4, 6-5 5, 6-6 6, 6-7 7, 6-8 8

## 557573-1
designator J?, comment AMP connector
footprint 557573-1
part A pins: 1-1 1, 1-2 2, 1-3 3, 1-4 4, 1-5 5, 1-6 6, 1-7 7, 1-8 8, G1 9, G2 10, G3 11
part B pins: 2-1 1, 2-2 2, 2-3 3, 2-4 4, 2-5 5, 2-6 6, 2-7 7, 2-8 8
part C pins: 3-1 1, 3-2 2, 3-3 3, 3-4 4, 3-5 5, 3-6 6, 3-7 7, 3-8 8
part D pins: 4-1 1, 4-2 2, 4-3 3, 4-4 4, 4-5 5, 4-6 6, 4-7 7, 4-8 8
part E pins: 5-1 1, 5-2 2, 5-3 3, 5-4 4, 5-5 5, 5-6 6, 5-7 7, 5-8 8
part F pins: 6-1 1, 6-2 2, 6-3 3, 6-4 4, 6-5 5, 6-6 6, 6-7 7, 6-8 8
part G pins: 7-1 1, 7-2 2, 7-3 3, 7-4 4, 7-5 5, 7-6 6, 7-7 7, 7-8 8
part H pins: 8-1 1, 8-2 2, 8-3 3, 8-4 4, 8-5 5, 8-6 6, 8-7 7, 8-8 8

## 557730-1
designator J?, comment AMP connector
footprint 557730-1
pins: 1, 2, 3, 4, 5, 6, 7, 8, G1 S2, G2 S1

## 557785-1
designator J?, comment AMP connector
footprint 557785-1
pins: 1, 2, 3, 4, 5, 6, 7, 8

## 557786-1
designator J?, comment AMP connector
footprint 557786-1
pins: 1-1 1, 1-2 2, 1-3 3, 1-4 4, 1-5 5, 1-6 6, 1-7 7, 1-8 8, G1 S2, G2 S1

## 557969-1
designator J?, comment AMP connector
footprint 557969-1
pins: 1, 2, 3, 4, 5, 6, 7, 8, G1 S2, G2 S1

## 558310-1
designator J?, comment AMP connector
footprint 558310-1
pins: 1, 2, 3, 4, 5, 6, 7, 8, G1 S2, G2 S1

## 558872-1
designator J?, comment AMP connector
footprint 558872-1
pins: 1, 2, 3, 4

## 0569564-3
designator J?, comment MODULAR JACK 8 POS., RIGHT ANGLE, LOW PROFILE WITH LEDS   Source: http://ecommas.tycoelectronics.com/.. 569564_K.pdf
footprint 0569564
part A pins: 1, 2, 3, 4, 5, 6, 7, 8, S1, S2
part B pins: A1 A, C1 C
part C pins: A2 A, C2 C

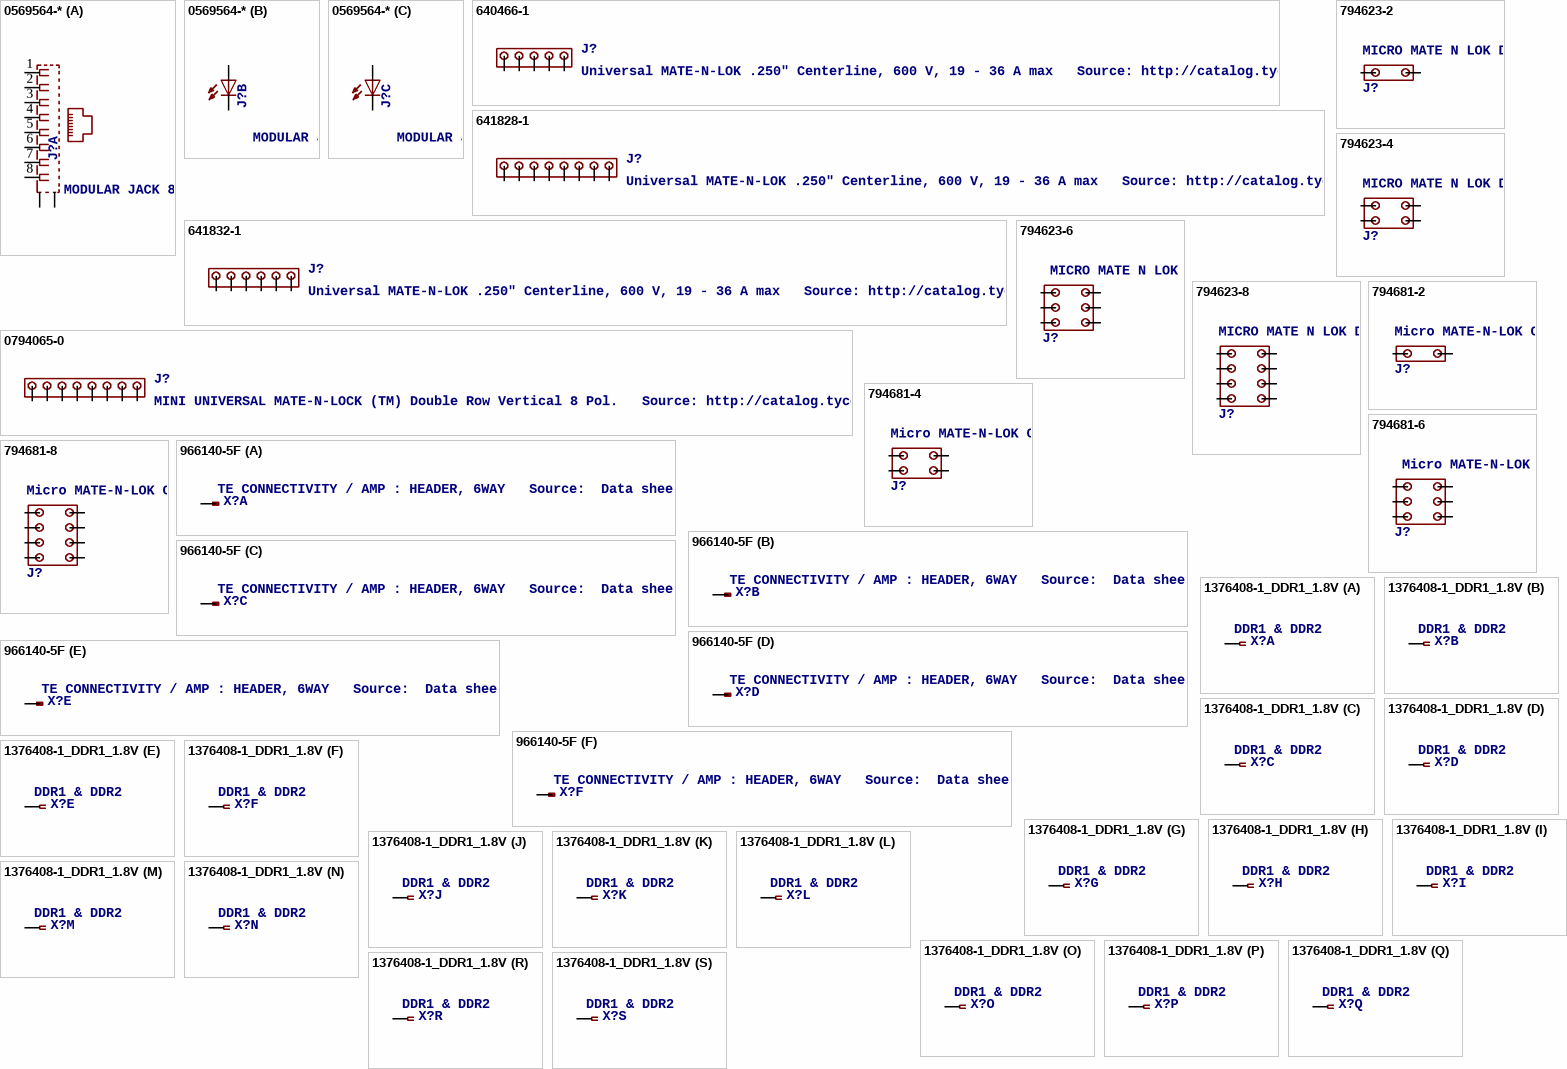
[diagram p5: symbols 0569564-* to 1376408-1_DDR1_1.8V]

## 0569564-*
designator J?, comment MODULAR JACK 8 POS., RIGHT ANGLE, LOW PROFILE WITH LEDS   Source: http://ecommas.tycoelectronics.com/.. 569564_K.pdf
footprint 0569564
part A pins: 1, 2, 3, 4, 5, 6, 7, 8, S1, S2
part B pins: A1 A, C1 C
part C pins: A2 A, C2 C

## 640466-1
designator J?, comment Universal MATE-N-LOK .250" Centerline, 600 V, 19 - 36 A max   Source: http://catalog.tycoelectronics.com/ .. ENG_CD_640466_M.pdf
footprint 640466-1
pins: 1, 2, 3, 4, 5

## 641828-1
designator J?, comment Universal MATE-N-LOK .250" Centerline, 600 V, 19 - 36 A max   Source: http://catalog.tycoelectronics.com/ .. ENG_CD_641828_M.pdf
footprint 641828-1
pins: 1, 2, 3, 4, 5, 6, 7, 8

## 641832-1
designator J?, comment Universal MATE-N-LOK .250" Centerline, 600 V, 19 - 36 A max   Source: http://catalog.tycoelectronics.com/ .. ENG_CD_641832_L.pdf
footprint 641832-1
pins: 1, 2, 3, 4, 5, 6

## 0794065-0
designator J?, comment MINI UNIVERSAL MATE-N-LOCK (TM) Double Row Vertical 8 Pol.   Source: http://catalog.tycoelectronics.com .. ENG_CD_794065_D1.pdf
footprint 0794065-0
pins: 1, 2, 3, 4, 5, 6, 7, 8

## 794623-2
designator J?, comment MICRO MATE N LOK Dual Row, grid 1.5 mm   Source: http://catalog.tycoelectronics.com .. ENG_CD_794623_F.pdf
footprint 794623-2
pins: 1, 2

## 794623-4
designator J?, comment MICRO MATE N LOK Dual Row, grid 1.5 mm   Source: http://catalog.tycoelectronics.com .. ENG_CD_794623_F.pdf
footprint 794623-4
pins: 1, 2, 3, 4

## 794623-6
designator J?, comment MICRO MATE N LOK Dual Row, grid 1.5 mm   Source: http://catalog.tycoelectronics.com .. ENG_CD_794623_F.pdf
footprint 794623-6
pins: 1, 2, 3, 4, 5, 6

## 794623-8
designator J?, comment MICRO MATE N LOK Dual Row, grid 1.5 mm   Source: http://catalog.tycoelectronics.com .. ENG_CD_794623_F.pdf
footprint 794623-8
pins: 1, 2, 3, 4, 5, 6, 7, 8

## 794681-2
designator J?, comment Micro MATE-N-LOK Connectors grid 1.5mm   Dual Row Through Hole Vertical Metal Through Hole Holddowns Source: ENG_CD_794681_E.pdf
footprint 794681-2
pins: 1, 2

## 794681-4
designator J?, comment Micro MATE-N-LOK Connectors grid 1.5mm   Dual Row Through Hole Vertical Metal Through Hole Holddowns Source: ENG_CD_794681_E.pdf
footprint 794681-4
pins: 1, 2, 3, 4

## 794681-6
designator J?, comment Micro MATE-N-LOK Connectors grid 1.5mm   Dual Row Through Hole Vertical Metal Through Hole Holddowns Source: ENG_CD_794681_E.pdf
footprint 794681-6
pins: 1, 2, 3, 4, 5, 6

## 794681-8
designator J?, comment Micro MATE-N-LOK Connectors grid 1.5mm   Dual Row Through Hole Vertical Metal Through Hole Holddowns Source: ENG_CD_794681_E.pdf
footprint 794681-8
pins: 1, 2, 3, 4, 5, 6, 7, 8

## 966140-5F
designator X?, comment TE CONNECTIVITY / AMP : HEADER, 6WAY   Source:  Data sheet
footprint 966140-5F
part A pins: 1
part B pins: 2 1
part C pins: 3 1
part D pins: 4 1
part E pins: 5 1
part F pins: 6 1

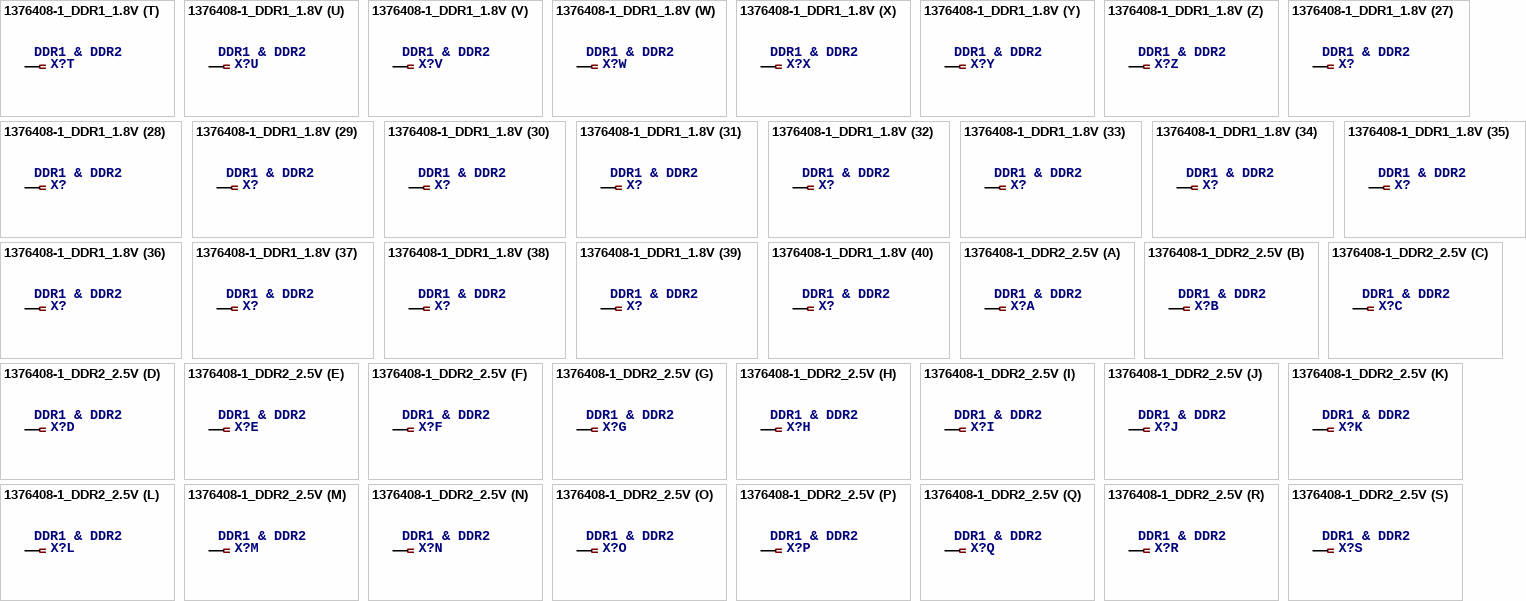
[diagram p6: symbols 1376408-1_DDR1_1.8V to 1376408-1_DDR2_2.5V]

## 1376408-1_DDR1_1.8V
designator X?, comment DDR1 & DDR2 SODIMM SOCKET 0.6mm Pitch 200 Pos.   Standard Profile, Standard Type (used on Kontron X-Board) Source: http://catalog.tycoelectronics.com .. JPN_CD_1376408_S.pdf
footprint 1-1376408-1
part A pins: 1
part B pins: 2 1
part C pins: 3 1
part D pins: 4 1
part E pins: 5 1
part F pins: 6 1
part G pins: 7 1
part H pins: 8 1
part I pins: 9 1
part J pins: 10 1
part K pins: 11 1
part L pins: 12 1
part M pins: 13 1
part N pins: 14 1
part O pins: 15 1
part P pins: 16 1
part Q pins: 17 1
part R pins: 18 1
part S pins: 19 1
part T pins: 20 1
part U pins: 21 1
part V pins: 22 1
part W pins: 23 1
part X pins: 24 1
part Y pins: 25 1
part Z pins: 26 1
part 27 pins: 27 1
part 28 pins: 28 1
part 29 pins: 29 1
part 30 pins: 30 1
part 31 pins: 31 1
part 32 pins: 32 1
part 33 pins: 33 1
part 34 pins: 34 1
part 35 pins: 35 1
part 36 pins: 36 1
part 37 pins: 37 1
part 38 pins: 38 1
part 39 pins: 39 1
part 40 pins: 40 1
part 41 pins: 41 1
part 42 pins: 42 1
part 43 pins: 43 1
part 44 pins: 44 1
part 45 pins: 45 1
part 46 pins: 46 1
part 47 pins: 47 1
part 48 pins: 48 1
part 49 pins: 49 1
part 50 pins: 50 1
part 51 pins: 51 1
part 52 pins: 52 1
part 53 pins: 53 1
part 54 pins: 54 1
part 55 pins: 55 1
part 56 pins: 56 1
part 57 pins: 57 1
part 58 pins: 58 1
part 59 pins: 59 1
part 60 pins: 60 1
part 61 pins: 61 1
part 62 pins: 62 1
part 63 pins: 63 1
part 64 pins: 64 1
part 65 pins: 65 1
part 66 pins: 66 1
part 67 pins: 67 1
part 68 pins: 68 1
part 69 pins: 69 1
part 70 pins: 70 1
part 71 pins: 71 1
part 72 pins: 72 1
part 73 pins: 73 1
part 74 pins: 74 1
part 75 pins: 75 1
part 76 pins: 76 1
part 77 pins: 77 1
part 78 pins: 78 1
part 79 pins: 79 1
part 80 pins: 80 1
part 81 pins: 81 1
part 82 pins: 82 1
part 83 pins: 83 1
part 84 pins: 84 1
part 85 pins: 85 1
part 86 pins: 86 1
part 87 pins: 87 1
part 88 pins: 88 1
part 89 pins: 89 1
part 90 pins: 90 1
part 91 pins: 91 1
part 92 pins: 92 1
part 93 pins: 93 1
part 94 pins: 94 1
part 95 pins: 95 1
part 96 pins: 96 1
part 97 pins: 97 1
part 98 pins: 98 1
part 99 pins: 99 1
part 100 pins: 100 1
part 101 pins: 101 1
part 102 pins: 102 1
part 103 pins: 103 1
part 104 pins: 104 1
part 105 pins: 105 1
part 106 pins: 106 1
part 107 pins: 107 1
part 108 pins: 108 1
part 109 pins: 109 1
part 110 pins: 110 1
part 111 pins: 111 1
part 112 pins: 112 1
part 113 pins: 113 1
part 114 pins: 114 1
part 115 pins: 115 1
part 116 pins: 116 1
part 117 pins: 117 1
part 118 pins: 118 1
part 119 pins: 119 1
part 120 pins: 120 1
part 121 pins: 121 1
part 122 pins: 122 1
part 123 pins: 123 1
part 124 pins: 124 1
part 125 pins: 125 1
part 126 pins: 126 1
part 127 pins: 127 1
part 128 pins: 128 1
part 129 pins: 129 1
part 130 pins: 130 1
part 131 pins: 131 1
part 132 pins: 132 1
part 133 pins: 133 1
part 134 pins: 134 1
part 135 pins: 135 1
part 136 pins: 136 1
part 137 pins: 137 1
part 138 pins: 138 1
part 139 pins: 139 1
part 140 pins: 140 1
part 141 pins: 141 1
part 142 pins: 142 1
part 143 pins: 143 1
part 144 pins: 144 1
part 145 pins: 145 1
part 146 pins: 146 1
part 147 pins: 147 1
part 148 pins: 148 1
part 149 pins: 149 1
part 150 pins: 150 1
part 151 pins: 151 1
part 152 pins: 152 1
part 153 pins: 153 1
part 154 pins: 154 1
part 155 pins: 155 1
part 156 pins: 156 1
part 157 pins: 157 1
part 158 pins: 158 1
part 159 pins: 159 1
part 160 pins: 160 1
part 161 pins: 161 1
part 162 pins: 162 1
part 163 pins: 163 1
part 164 pins: 164 1
part 165 pins: 165 1
part 166 pins: 166 1
part 167 pins: 167 1
part 168 pins: 168 1
part 169 pins: 169 1
part 170 pins: 170 1
part 171 pins: 171 1
part 172 pins: 172 1
part 173 pins: 173 1
part 174 pins: 174 1
part 175 pins: 175 1
part 176 pins: 176 1
part 177 pins: 177 1
part 178 pins: 178 1
part 179 pins: 179 1
part 180 pins: 180 1
part 181 pins: 181 1
part 182 pins: 182 1
part 183 pins: 183 1
part 184 pins: 184 1
part 185 pins: 185 1
part 186 pins: 186 1
part 187 pins: 187 1
part 188 pins: 188 1
part 189 pins: 189 1
part 190 pins: 190 1
part 191 pins: 191 1
part 192 pins: 192 1
part 193 pins: 193 1
part 194 pins: 194 1
part 195 pins: 195 1
part 196 pins: 196 1
part 197 pins: 197 1
part 198 pins: 198 1
part 199 pins: 199 1
part 200 pins: 200 1

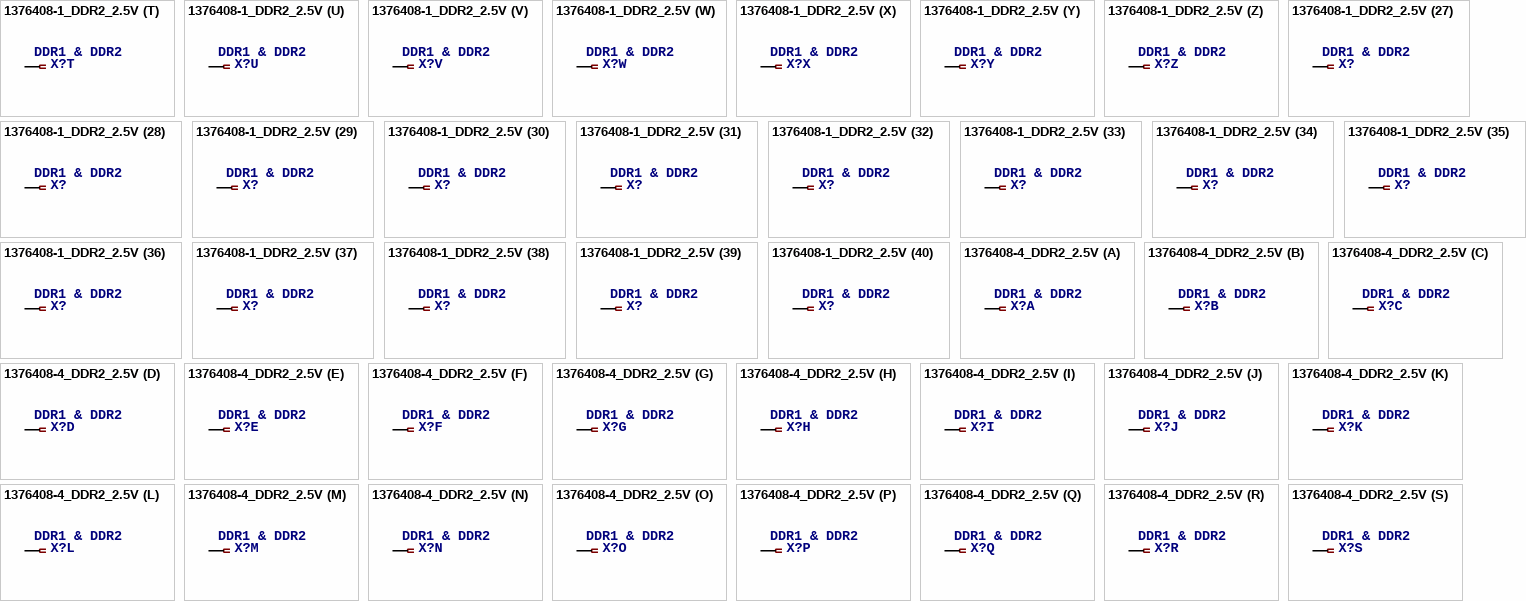
[diagram p7: symbols 1376408-1_DDR2_2.5V to 1376408-4_DDR2_2.5V]

## 1376408-1_DDR2_2.5V
designator X?, comment DDR1 & DDR2 SODIMM SOCKET 0.6mm Pitch 200 Pos.   Standard Profile, Standard Type (used on Kontron X-Board) Source: http://catalog.tycoelectronics.com .. JPN_CD_1376408_S.pdf
footprint 6-1376408-1
part A pins: 1
part B pins: 2 1
part C pins: 3 1
part D pins: 4 1
part E pins: 5 1
part F pins: 6 1
part G pins: 7 1
part H pins: 8 1
part I pins: 9 1
part J pins: 10 1
part K pins: 11 1
part L pins: 12 1
part M pins: 13 1
part N pins: 14 1
part O pins: 15 1
part P pins: 16 1
part Q pins: 17 1
part R pins: 18 1
part S pins: 19 1
part T pins: 20 1
part U pins: 21 1
part V pins: 22 1
part W pins: 23 1
part X pins: 24 1
part Y pins: 25 1
part Z pins: 26 1
part 27 pins: 27 1
part 28 pins: 28 1
part 29 pins: 29 1
part 30 pins: 30 1
part 31 pins: 31 1
part 32 pins: 32 1
part 33 pins: 33 1
part 34 pins: 34 1
part 35 pins: 35 1
part 36 pins: 36 1
part 37 pins: 37 1
part 38 pins: 38 1
part 39 pins: 39 1
part 40 pins: 40 1
part 41 pins: 41 1
part 42 pins: 42 1
part 43 pins: 43 1
part 44 pins: 44 1
part 45 pins: 45 1
part 46 pins: 46 1
part 47 pins: 47 1
part 48 pins: 48 1
part 49 pins: 49 1
part 50 pins: 50 1
part 51 pins: 51 1
part 52 pins: 52 1
part 53 pins: 53 1
part 54 pins: 54 1
part 55 pins: 55 1
part 56 pins: 56 1
part 57 pins: 57 1
part 58 pins: 58 1
part 59 pins: 59 1
part 60 pins: 60 1
part 61 pins: 61 1
part 62 pins: 62 1
part 63 pins: 63 1
part 64 pins: 64 1
part 65 pins: 65 1
part 66 pins: 66 1
part 67 pins: 67 1
part 68 pins: 68 1
part 69 pins: 69 1
part 70 pins: 70 1
part 71 pins: 71 1
part 72 pins: 72 1
part 73 pins: 73 1
part 74 pins: 74 1
part 75 pins: 75 1
part 76 pins: 76 1
part 77 pins: 77 1
part 78 pins: 78 1
part 79 pins: 79 1
part 80 pins: 80 1
part 81 pins: 81 1
part 82 pins: 82 1
part 83 pins: 83 1
part 84 pins: 84 1
part 85 pins: 85 1
part 86 pins: 86 1
part 87 pins: 87 1
part 88 pins: 88 1
part 89 pins: 89 1
part 90 pins: 90 1
part 91 pins: 91 1
part 92 pins: 92 1
part 93 pins: 93 1
part 94 pins: 94 1
part 95 pins: 95 1
part 96 pins: 96 1
part 97 pins: 97 1
part 98 pins: 98 1
part 99 pins: 99 1
part 100 pins: 100 1
part 101 pins: 101 1
part 102 pins: 102 1
part 103 pins: 103 1
part 104 pins: 104 1
part 105 pins: 105 1
part 106 pins: 106 1
part 107 pins: 107 1
part 108 pins: 108 1
part 109 pins: 109 1
part 110 pins: 110 1
part 111 pins: 111 1
part 112 pins: 112 1
part 113 pins: 113 1
part 114 pins: 114 1
part 115 pins: 115 1
part 116 pins: 116 1
part 117 pins: 117 1
part 118 pins: 118 1
part 119 pins: 119 1
part 120 pins: 120 1
part 121 pins: 121 1
part 122 pins: 122 1
part 123 pins: 123 1
part 124 pins: 124 1
part 125 pins: 125 1
part 126 pins: 126 1
part 127 pins: 127 1
part 128 pins: 128 1
part 129 pins: 129 1
part 130 pins: 130 1
part 131 pins: 131 1
part 132 pins: 132 1
part 133 pins: 133 1
part 134 pins: 134 1
part 135 pins: 135 1
part 136 pins: 136 1
part 137 pins: 137 1
part 138 pins: 138 1
part 139 pins: 139 1
part 140 pins: 140 1
part 141 pins: 141 1
part 142 pins: 142 1
part 143 pins: 143 1
part 144 pins: 144 1
part 145 pins: 145 1
part 146 pins: 146 1
part 147 pins: 147 1
part 148 pins: 148 1
part 149 pins: 149 1
part 150 pins: 150 1
part 151 pins: 151 1
part 152 pins: 152 1
part 153 pins: 153 1
part 154 pins: 154 1
part 155 pins: 155 1
part 156 pins: 156 1
part 157 pins: 157 1
part 158 pins: 158 1
part 159 pins: 159 1
part 160 pins: 160 1
part 161 pins: 161 1
part 162 pins: 162 1
part 163 pins: 163 1
part 164 pins: 164 1
part 165 pins: 165 1
part 166 pins: 166 1
part 167 pins: 167 1
part 168 pins: 168 1
part 169 pins: 169 1
part 170 pins: 170 1
part 171 pins: 171 1
part 172 pins: 172 1
part 173 pins: 173 1
part 174 pins: 174 1
part 175 pins: 175 1
part 176 pins: 176 1
part 177 pins: 177 1
part 178 pins: 178 1
part 179 pins: 179 1
part 180 pins: 180 1
part 181 pins: 181 1
part 182 pins: 182 1
part 183 pins: 183 1
part 184 pins: 184 1
part 185 pins: 185 1
part 186 pins: 186 1
part 187 pins: 187 1
part 188 pins: 188 1
part 189 pins: 189 1
part 190 pins: 190 1
part 191 pins: 191 1
part 192 pins: 192 1
part 193 pins: 193 1
part 194 pins: 194 1
part 195 pins: 195 1
part 196 pins: 196 1
part 197 pins: 197 1
part 198 pins: 198 1
part 199 pins: 199 1
part 200 pins: 200 1

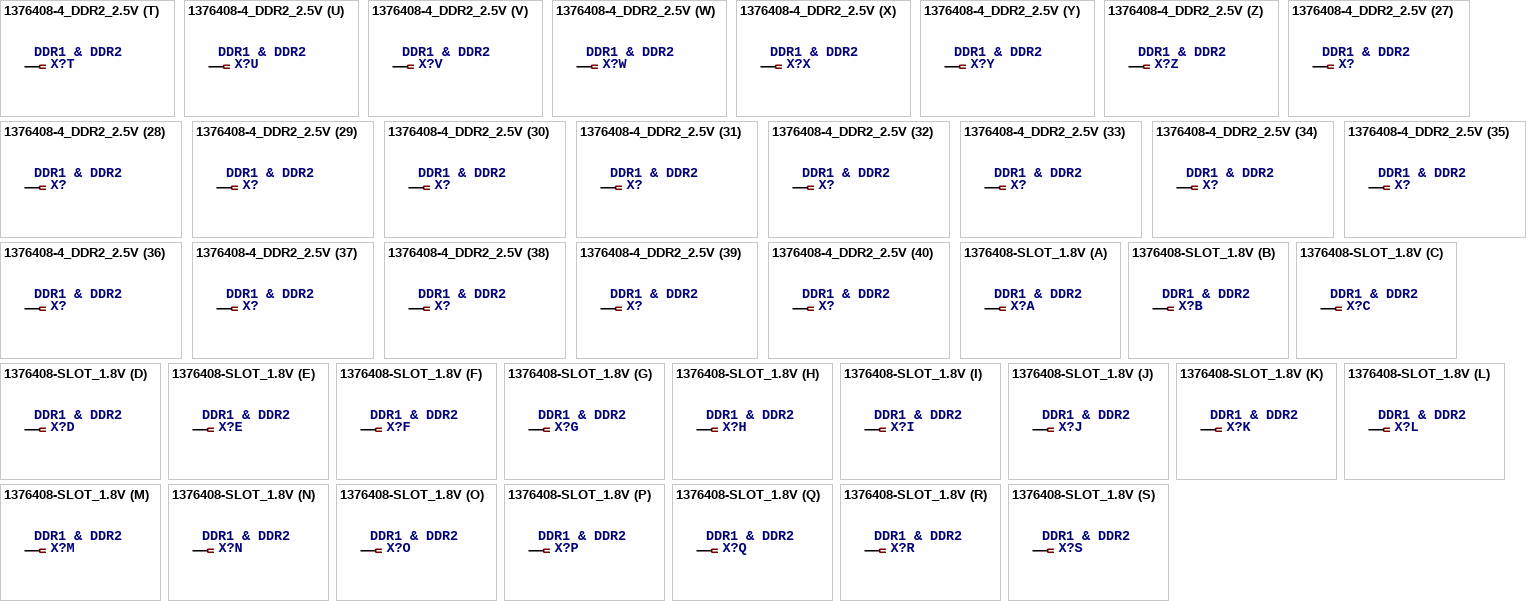
[diagram p8: symbols 1376408-4_DDR2_2.5V to 1376408-SLOT_1.8V]

## 1376408-4_DDR2_2.5V
designator X?, comment DDR1 & DDR2 SODIMM SOCKET 0.6mm Pitch 200 Pos.   Standard Profile, Standard Type (used on Kontron X-Board) Source: http://catalog.tycoelectronics.com .. JPN_CD_1376408_S.pdf
footprint 1-1376408-4
part A pins: 1
part B pins: 2 1
part C pins: 3 1
part D pins: 4 1
part E pins: 5 1
part F pins: 6 1
part G pins: 7 1
part H pins: 8 1
part I pins: 9 1
part J pins: 10 1
part K pins: 11 1
part L pins: 12 1
part M pins: 13 1
part N pins: 14 1
part O pins: 15 1
part P pins: 16 1
part Q pins: 17 1
part R pins: 18 1
part S pins: 19 1
part T pins: 20 1
part U pins: 21 1
part V pins: 22 1
part W pins: 23 1
part X pins: 24 1
part Y pins: 25 1
part Z pins: 26 1
part 27 pins: 27 1
part 28 pins: 28 1
part 29 pins: 29 1
part 30 pins: 30 1
part 31 pins: 31 1
part 32 pins: 32 1
part 33 pins: 33 1
part 34 pins: 34 1
part 35 pins: 35 1
part 36 pins: 36 1
part 37 pins: 37 1
part 38 pins: 38 1
part 39 pins: 39 1
part 40 pins: 40 1
part 41 pins: 41 1
part 42 pins: 42 1
part 43 pins: 43 1
part 44 pins: 44 1
part 45 pins: 45 1
part 46 pins: 46 1
part 47 pins: 47 1
part 48 pins: 48 1
part 49 pins: 49 1
part 50 pins: 50 1
part 51 pins: 51 1
part 52 pins: 52 1
part 53 pins: 53 1
part 54 pins: 54 1
part 55 pins: 55 1
part 56 pins: 56 1
part 57 pins: 57 1
part 58 pins: 58 1
part 59 pins: 59 1
part 60 pins: 60 1
part 61 pins: 61 1
part 62 pins: 62 1
part 63 pins: 63 1
part 64 pins: 64 1
part 65 pins: 65 1
part 66 pins: 66 1
part 67 pins: 67 1
part 68 pins: 68 1
part 69 pins: 69 1
part 70 pins: 70 1
part 71 pins: 71 1
part 72 pins: 72 1
part 73 pins: 73 1
part 74 pins: 74 1
part 75 pins: 75 1
part 76 pins: 76 1
part 77 pins: 77 1
part 78 pins: 78 1
part 79 pins: 79 1
part 80 pins: 80 1
part 81 pins: 81 1
part 82 pins: 82 1
part 83 pins: 83 1
part 84 pins: 84 1
part 85 pins: 85 1
part 86 pins: 86 1
part 87 pins: 87 1
part 88 pins: 88 1
part 89 pins: 89 1
part 90 pins: 90 1
part 91 pins: 91 1
part 92 pins: 92 1
part 93 pins: 93 1
part 94 pins: 94 1
part 95 pins: 95 1
part 96 pins: 96 1
part 97 pins: 97 1
part 98 pins: 98 1
part 99 pins: 99 1
part 100 pins: 100 1
part 101 pins: 101 1
part 102 pins: 102 1
part 103 pins: 103 1
part 104 pins: 104 1
part 105 pins: 105 1
part 106 pins: 106 1
part 107 pins: 107 1
part 108 pins: 108 1
part 109 pins: 109 1
part 110 pins: 110 1
part 111 pins: 111 1
part 112 pins: 112 1
part 113 pins: 113 1
part 114 pins: 114 1
part 115 pins: 115 1
part 116 pins: 116 1
part 117 pins: 117 1
part 118 pins: 118 1
part 119 pins: 119 1
part 120 pins: 120 1
part 121 pins: 121 1
part 122 pins: 122 1
part 123 pins: 123 1
part 124 pins: 124 1
part 125 pins: 125 1
part 126 pins: 126 1
part 127 pins: 127 1
part 128 pins: 128 1
part 129 pins: 129 1
part 130 pins: 130 1
part 131 pins: 131 1
part 132 pins: 132 1
part 133 pins: 133 1
part 134 pins: 134 1
part 135 pins: 135 1
part 136 pins: 136 1
part 137 pins: 137 1
part 138 pins: 138 1
part 139 pins: 139 1
part 140 pins: 140 1
part 141 pins: 141 1
part 142 pins: 142 1
part 143 pins: 143 1
part 144 pins: 144 1
part 145 pins: 145 1
part 146 pins: 146 1
part 147 pins: 147 1
part 148 pins: 148 1
part 149 pins: 149 1
part 150 pins: 150 1
part 151 pins: 151 1
part 152 pins: 152 1
part 153 pins: 153 1
part 154 pins: 154 1
part 155 pins: 155 1
part 156 pins: 156 1
part 157 pins: 157 1
part 158 pins: 158 1
part 159 pins: 159 1
part 160 pins: 160 1
part 161 pins: 161 1
part 162 pins: 162 1
part 163 pins: 163 1
part 164 pins: 164 1
part 165 pins: 165 1
part 166 pins: 166 1
part 167 pins: 167 1
part 168 pins: 168 1
part 169 pins: 169 1
part 170 pins: 170 1
part 171 pins: 171 1
part 172 pins: 172 1
part 173 pins: 173 1
part 174 pins: 174 1
part 175 pins: 175 1
part 176 pins: 176 1
part 177 pins: 177 1
part 178 pins: 178 1
part 179 pins: 179 1
part 180 pins: 180 1
part 181 pins: 181 1
part 182 pins: 182 1
part 183 pins: 183 1
part 184 pins: 184 1
part 185 pins: 185 1
part 186 pins: 186 1
part 187 pins: 187 1
part 188 pins: 188 1
part 189 pins: 189 1
part 190 pins: 190 1
part 191 pins: 191 1
part 192 pins: 192 1
part 193 pins: 193 1
part 194 pins: 194 1
part 195 pins: 195 1
part 196 pins: 196 1
part 197 pins: 197 1
part 198 pins: 198 1
part 199 pins: 199 1
part 200 pins: 200 1

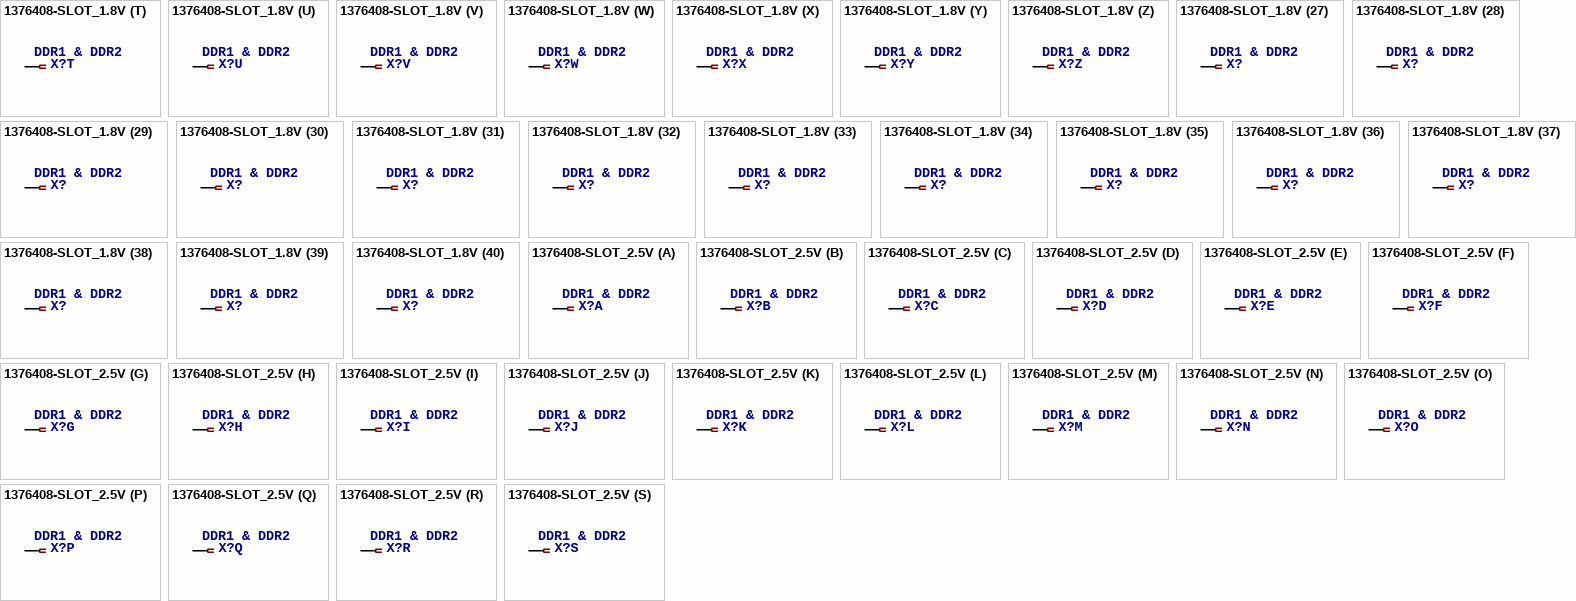
[diagram p9: symbols 1376408-SLOT_1.8V to 1376408-SLOT_2.5V]

## 1376408-SLOT_1.8V
designator X?, comment DDR1 & DDR2 SODIMM SOCKET 0.6mm Pitch 200 Pos.   Standard Profile, Standard Type (used on Kontron X-Board) Source: http://catalog.tycoelectronics.com .. JPN_CD_1376408_S.pdf
footprint SLOT-1376408-1_1.8V
part A pins: 1
part B pins: 2 1
part C pins: 3 1
part D pins: 4 1
part E pins: 5 1
part F pins: 6 1
part G pins: 7 1
part H pins: 8 1
part I pins: 9 1
part J pins: 10 1
part K pins: 11 1
part L pins: 12 1
part M pins: 13 1
part N pins: 14 1
part O pins: 15 1
part P pins: 16 1
part Q pins: 17 1
part R pins: 18 1
part S pins: 19 1
part T pins: 20 1
part U pins: 21 1
part V pins: 22 1
part W pins: 23 1
part X pins: 24 1
part Y pins: 25 1
part Z pins: 26 1
part 27 pins: 27 1
part 28 pins: 28 1
part 29 pins: 29 1
part 30 pins: 30 1
part 31 pins: 31 1
part 32 pins: 32 1
part 33 pins: 33 1
part 34 pins: 34 1
part 35 pins: 35 1
part 36 pins: 36 1
part 37 pins: 37 1
part 38 pins: 38 1
part 39 pins: 39 1
part 40 pins: 40 1
part 41 pins: 41 1
part 42 pins: 42 1
part 43 pins: 43 1
part 44 pins: 44 1
part 45 pins: 45 1
part 46 pins: 46 1
part 47 pins: 47 1
part 48 pins: 48 1
part 49 pins: 49 1
part 50 pins: 50 1
part 51 pins: 51 1
part 52 pins: 52 1
part 53 pins: 53 1
part 54 pins: 54 1
part 55 pins: 55 1
part 56 pins: 56 1
part 57 pins: 57 1
part 58 pins: 58 1
part 59 pins: 59 1
part 60 pins: 60 1
part 61 pins: 61 1
part 62 pins: 62 1
part 63 pins: 63 1
part 64 pins: 64 1
part 65 pins: 65 1
part 66 pins: 66 1
part 67 pins: 67 1
part 68 pins: 68 1
part 69 pins: 69 1
part 70 pins: 70 1
part 71 pins: 71 1
part 72 pins: 72 1
part 73 pins: 73 1
part 74 pins: 74 1
part 75 pins: 75 1
part 76 pins: 76 1
part 77 pins: 77 1
part 78 pins: 78 1
part 79 pins: 79 1
part 80 pins: 80 1
part 81 pins: 81 1
part 82 pins: 82 1
part 83 pins: 83 1
part 84 pins: 84 1
part 85 pins: 85 1
part 86 pins: 86 1
part 87 pins: 87 1
part 88 pins: 88 1
part 89 pins: 89 1
part 90 pins: 90 1
part 91 pins: 91 1
part 92 pins: 92 1
part 93 pins: 93 1
part 94 pins: 94 1
part 95 pins: 95 1
part 96 pins: 96 1
part 97 pins: 97 1
part 98 pins: 98 1
part 99 pins: 99 1
part 100 pins: 100 1
part 101 pins: 101 1
part 102 pins: 102 1
part 103 pins: 103 1
part 104 pins: 104 1
part 105 pins: 105 1
part 106 pins: 106 1
part 107 pins: 107 1
part 108 pins: 108 1
part 109 pins: 109 1
part 110 pins: 110 1
part 111 pins: 111 1
part 112 pins: 112 1
part 113 pins: 113 1
part 114 pins: 114 1
part 115 pins: 115 1
part 116 pins: 116 1
part 117 pins: 117 1
part 118 pins: 118 1
part 119 pins: 119 1
part 120 pins: 120 1
part 121 pins: 121 1
part 122 pins: 122 1
part 123 pins: 123 1
part 124 pins: 124 1
part 125 pins: 125 1
part 126 pins: 126 1
part 127 pins: 127 1
part 128 pins: 128 1
part 129 pins: 129 1
part 130 pins: 130 1
part 131 pins: 131 1
part 132 pins: 132 1
part 133 pins: 133 1
part 134 pins: 134 1
part 135 pins: 135 1
part 136 pins: 136 1
part 137 pins: 137 1
part 138 pins: 138 1
part 139 pins: 139 1
part 140 pins: 140 1
part 141 pins: 141 1
part 142 pins: 142 1
part 143 pins: 143 1
part 144 pins: 144 1
part 145 pins: 145 1
part 146 pins: 146 1
part 147 pins: 147 1
part 148 pins: 148 1
part 149 pins: 149 1
part 150 pins: 150 1
part 151 pins: 151 1
part 152 pins: 152 1
part 153 pins: 153 1
part 154 pins: 154 1
part 155 pins: 155 1
part 156 pins: 156 1
part 157 pins: 157 1
part 158 pins: 158 1
part 159 pins: 159 1
part 160 pins: 160 1
part 161 pins: 161 1
part 162 pins: 162 1
part 163 pins: 163 1
part 164 pins: 164 1
part 165 pins: 165 1
part 166 pins: 166 1
part 167 pins: 167 1
part 168 pins: 168 1
part 169 pins: 169 1
part 170 pins: 170 1
part 171 pins: 171 1
part 172 pins: 172 1
part 173 pins: 173 1
part 174 pins: 174 1
part 175 pins: 175 1
part 176 pins: 176 1
part 177 pins: 177 1
part 178 pins: 178 1
part 179 pins: 179 1
part 180 pins: 180 1
part 181 pins: 181 1
part 182 pins: 182 1
part 183 pins: 183 1
part 184 pins: 184 1
part 185 pins: 185 1
part 186 pins: 186 1
part 187 pins: 187 1
part 188 pins: 188 1
part 189 pins: 189 1
part 190 pins: 190 1
part 191 pins: 191 1
part 192 pins: 192 1
part 193 pins: 193 1
part 194 pins: 194 1
part 195 pins: 195 1
part 196 pins: 196 1
part 197 pins: 197 1
part 198 pins: 198 1
part 199 pins: 199 1
part 200 pins: 200 1

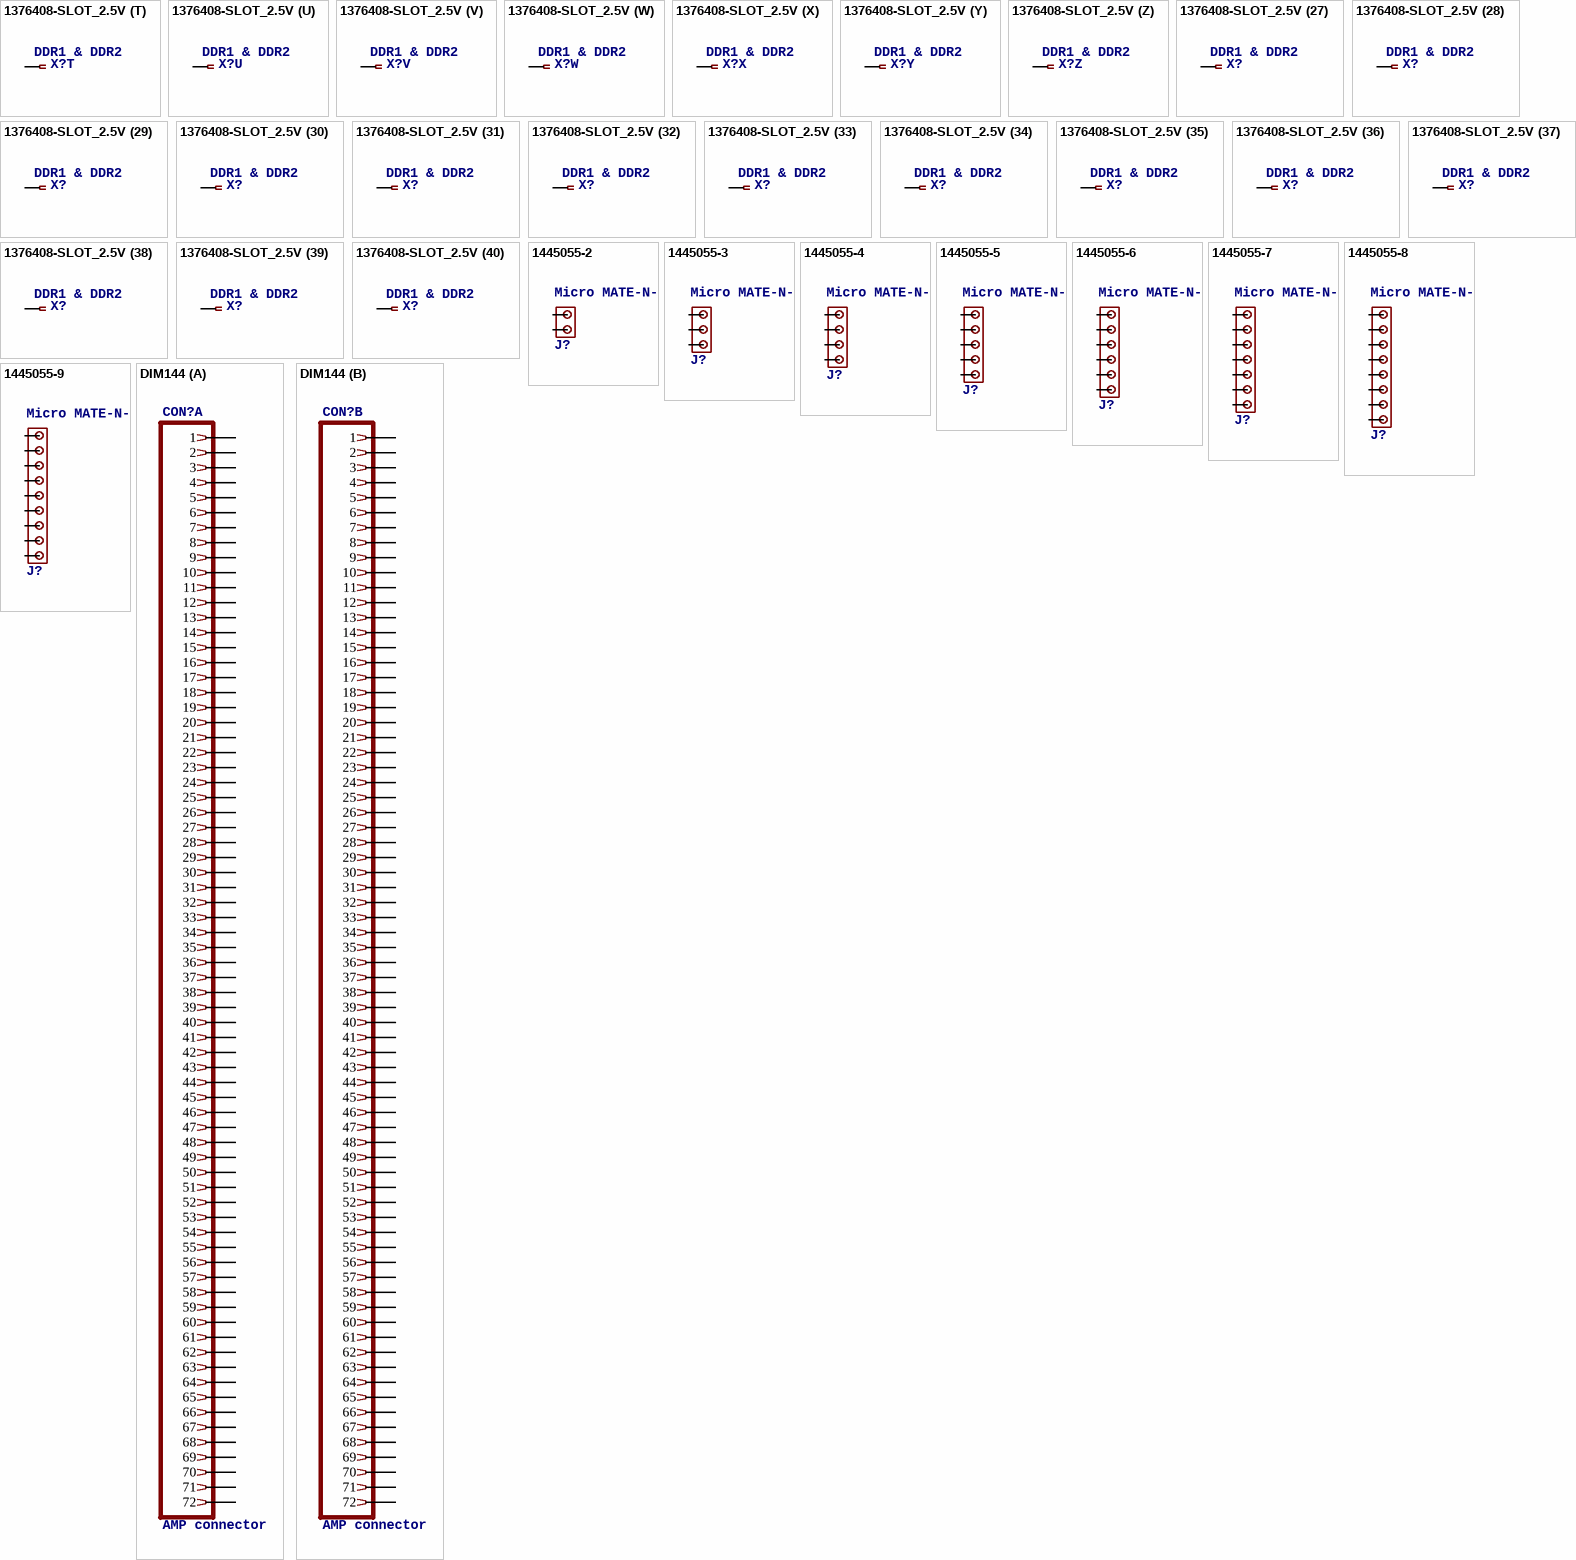
[diagram p10: symbols 1376408-SLOT_2.5V to DIM144]

## 1376408-SLOT_2.5V
designator X?, comment DDR1 & DDR2 SODIMM SOCKET 0.6mm Pitch 200 Pos.   Standard Profile, Standard Type (used on Kontron X-Board) Source: http://catalog.tycoelectronics.com .. JPN_CD_1376408_S.pdf
footprint SLOT-1376408-1_2.5V
part A pins: 1
part B pins: 2 1
part C pins: 3 1
part D pins: 4 1
part E pins: 5 1
part F pins: 6 1
part G pins: 7 1
part H pins: 8 1
part I pins: 9 1
part J pins: 10 1
part K pins: 11 1
part L pins: 12 1
part M pins: 13 1
part N pins: 14 1
part O pins: 15 1
part P pins: 16 1
part Q pins: 17 1
part R pins: 18 1
part S pins: 19 1
part T pins: 20 1
part U pins: 21 1
part V pins: 22 1
part W pins: 23 1
part X pins: 24 1
part Y pins: 25 1
part Z pins: 26 1
part 27 pins: 27 1
part 28 pins: 28 1
part 29 pins: 29 1
part 30 pins: 30 1
part 31 pins: 31 1
part 32 pins: 32 1
part 33 pins: 33 1
part 34 pins: 34 1
part 35 pins: 35 1
part 36 pins: 36 1
part 37 pins: 37 1
part 38 pins: 38 1
part 39 pins: 39 1
part 40 pins: 40 1
part 41 pins: 41 1
part 42 pins: 42 1
part 43 pins: 43 1
part 44 pins: 44 1
part 45 pins: 45 1
part 46 pins: 46 1
part 47 pins: 47 1
part 48 pins: 48 1
part 49 pins: 49 1
part 50 pins: 50 1
part 51 pins: 51 1
part 52 pins: 52 1
part 53 pins: 53 1
part 54 pins: 54 1
part 55 pins: 55 1
part 56 pins: 56 1
part 57 pins: 57 1
part 58 pins: 58 1
part 59 pins: 59 1
part 60 pins: 60 1
part 61 pins: 61 1
part 62 pins: 62 1
part 63 pins: 63 1
part 64 pins: 64 1
part 65 pins: 65 1
part 66 pins: 66 1
part 67 pins: 67 1
part 68 pins: 68 1
part 69 pins: 69 1
part 70 pins: 70 1
part 71 pins: 71 1
part 72 pins: 72 1
part 73 pins: 73 1
part 74 pins: 74 1
part 75 pins: 75 1
part 76 pins: 76 1
part 77 pins: 77 1
part 78 pins: 78 1
part 79 pins: 79 1
part 80 pins: 80 1
part 81 pins: 81 1
part 82 pins: 82 1
part 83 pins: 83 1
part 84 pins: 84 1
part 85 pins: 85 1
part 86 pins: 86 1
part 87 pins: 87 1
part 88 pins: 88 1
part 89 pins: 89 1
part 90 pins: 90 1
part 91 pins: 91 1
part 92 pins: 92 1
part 93 pins: 93 1
part 94 pins: 94 1
part 95 pins: 95 1
part 96 pins: 96 1
part 97 pins: 97 1
part 98 pins: 98 1
part 99 pins: 99 1
part 100 pins: 100 1
part 101 pins: 101 1
part 102 pins: 102 1
part 103 pins: 103 1
part 104 pins: 104 1
part 105 pins: 105 1
part 106 pins: 106 1
part 107 pins: 107 1
part 108 pins: 108 1
part 109 pins: 109 1
part 110 pins: 110 1
part 111 pins: 111 1
part 112 pins: 112 1
part 113 pins: 113 1
part 114 pins: 114 1
part 115 pins: 115 1
part 116 pins: 116 1
part 117 pins: 117 1
part 118 pins: 118 1
part 119 pins: 119 1
part 120 pins: 120 1
part 121 pins: 121 1
part 122 pins: 122 1
part 123 pins: 123 1
part 124 pins: 124 1
part 125 pins: 125 1
part 126 pins: 126 1
part 127 pins: 127 1
part 128 pins: 128 1
part 129 pins: 129 1
part 130 pins: 130 1
part 131 pins: 131 1
part 132 pins: 132 1
part 133 pins: 133 1
part 134 pins: 134 1
part 135 pins: 135 1
part 136 pins: 136 1
part 137 pins: 137 1
part 138 pins: 138 1
part 139 pins: 139 1
part 140 pins: 140 1
part 141 pins: 141 1
part 142 pins: 142 1
part 143 pins: 143 1
part 144 pins: 144 1
part 145 pins: 145 1
part 146 pins: 146 1
part 147 pins: 147 1
part 148 pins: 148 1
part 149 pins: 149 1
part 150 pins: 150 1
part 151 pins: 151 1
part 152 pins: 152 1
part 153 pins: 153 1
part 154 pins: 154 1
part 155 pins: 155 1
part 156 pins: 156 1
part 157 pins: 157 1
part 158 pins: 158 1
part 159 pins: 159 1
part 160 pins: 160 1
part 161 pins: 161 1
part 162 pins: 162 1
part 163 pins: 163 1
part 164 pins: 164 1
part 165 pins: 165 1
part 166 pins: 166 1
part 167 pins: 167 1
part 168 pins: 168 1
part 169 pins: 169 1
part 170 pins: 170 1
part 171 pins: 171 1
part 172 pins: 172 1
part 173 pins: 173 1
part 174 pins: 174 1
part 175 pins: 175 1
part 176 pins: 176 1
part 177 pins: 177 1
part 178 pins: 178 1
part 179 pins: 179 1
part 180 pins: 180 1
part 181 pins: 181 1
part 182 pins: 182 1
part 183 pins: 183 1
part 184 pins: 184 1
part 185 pins: 185 1
part 186 pins: 186 1
part 187 pins: 187 1
part 188 pins: 188 1
part 189 pins: 189 1
part 190 pins: 190 1
part 191 pins: 191 1
part 192 pins: 192 1
part 193 pins: 193 1
part 194 pins: 194 1
part 195 pins: 195 1
part 196 pins: 196 1
part 197 pins: 197 1
part 198 pins: 198 1
part 199 pins: 199 1
part 200 pins: 200 1

## 1445055-2
designator J?, comment Micro MATE-N-LOK Connectors grid 1.5 mm   Source: ENG_CD_1445055_A.pdf
footprint 1445055-2
pins: 1, 2

## 1445055-3
designator J?, comment Micro MATE-N-LOK Connectors grid 1.5 mm   Source: ENG_CD_1445055_A.pdf
footprint 1445055-3
pins: 1, 2, 3

## 1445055-4
designator J?, comment Micro MATE-N-LOK Connectors grid 1.5 mm   Source: ENG_CD_1445055_A.pdf
footprint 1445055-4
pins: 1, 2, 3, 4